# Altium integrated library Processor.IntLib: 68 symbols (part 1 of 4)
Pins are listed as number, name and electrical type; pins without a type are passive.

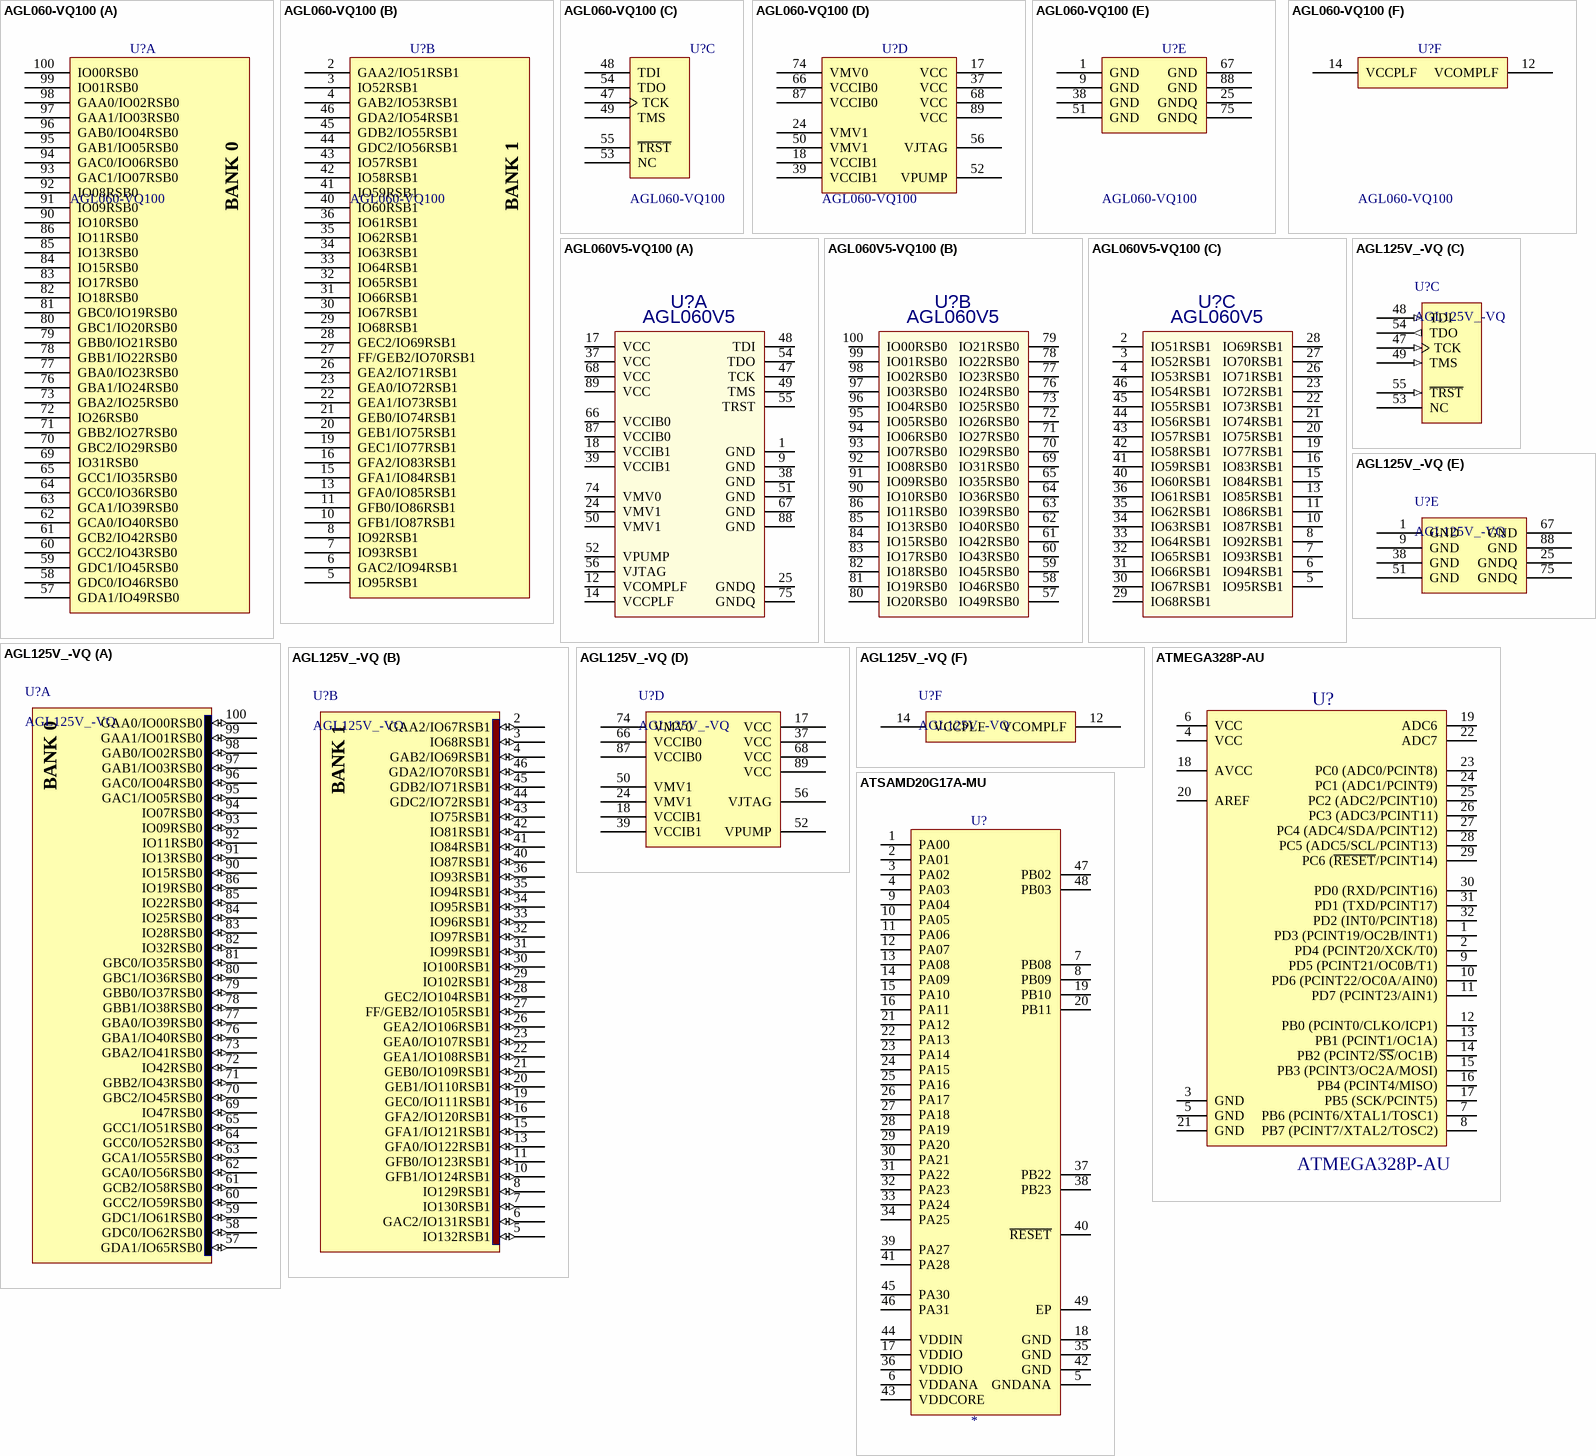
[diagram p0: symbols AGL060-VQ100 to ATSAMD20G17A-MU]

## AGL060-VQ100
designator U?
FPGA - Field Programmable Gate Array IGLOO
footprint VQ100 P0.5 C14x14 H1.2 (Thin QFP, 100-Leads, Body 14x14mm, Pitch 0.5mm, IPC Medium Density)
part A pins: 57 GDA1/IO49RSB0, 58 GDC0/IO46RSB0, 59 GDC1/IO45RSB0, 60 GCC2/IO43RSB0, 61 GCB2/IO42RSB0, 62 GCA0/IO40RSB0, 63 GCA1/IO39RSB0, 64 GCC0/IO36RSB0, 65 GCC1/IO35RSB0, 69 IO31RSB0, 70 GBC2/IO29RSB0, 71 GBB2/IO27RSB0, 72 IO26RSB0, 73 GBA2/IO25RSB0, 76 GBA1/IO24RSB0, 77 GBA0/IO23RSB0, 78 GBB1/IO22RSB0, 79 GBB0/IO21RSB0, 80 GBC1/IO20RSB0, 81 GBC0/IO19RSB0, 82 IO18RSB0, 83 IO17RSB0, 84 IO15RSB0, 85 IO13RSB0, 86 IO11RSB0, 90 IO10RSB0, 91 IO09RSB0, 92 IO08RSB0, 93 GAC1/IO07RSB0, 94 GAC0/IO06RSB0, 95 GAB1/IO05RSB0, 96 GAB0/IO04RSB0, 97 GAA1/IO03RSB0, 98 GAA0/IO02RSB0, 99 IO01RSB0, 100 IO00RSB0
part B pins: 2 GAA2/IO51RSB1, 3 IO52RSB1, 4 GAB2/IO53RSB1, 5 IO95RSB1, 6 GAC2/IO94RSB1, 7 IO93RSB1, 8 IO92RSB1, 10 GFB1/IO87RSB1, 11 GFB0/IO86RSB1, 13 GFA0/IO85RSB1, 15 GFA1/IO84RSB1, 16 GFA2/IO83RSB1, 19 GEC1/IO77RSB1, 20 GEB1/IO75RSB1, 21 GEB0/IO74RSB1, 22 GEA1/IO73RSB1, 23 GEA0/IO72RSB1, 26 GEA2/IO71RSB1, 27 FF/GEB2/IO70RSB1, 28 GEC2/IO69RSB1, 29 IO68RSB1, 30 IO67RSB1, 31 IO66RSB1, 32 IO65RSB1, 33 IO64RSB1, 34 IO63RSB1, 35 IO62RSB1, 36 IO61RSB1, 40 IO60RSB1, 41 IO59RSB1, 42 IO58RSB1, 43 IO57RSB1, 44 GDC2/IO56RSB1, 45 GDB2/IO55RSB1, 46 GDA2/IO54RSB1
part C pins: 47 TCK, 48 TDI, 49 TMS, 53 NC, 54 TDO, 55 ~{TRST}
part D pins: 17 VCC, 18 VCCIB1, 24 VMV1, 37 VCC, 39 VCCIB1, 50 VMV1, 52 VPUMP, 56 VJTAG, 66 VCCIB0, 68 VCC, 74 VMV0, 87 VCCIB0, 89 VCC
part E pins: 1 GND, 9 GND, 25 GNDQ, 38 GND, 51 GND, 67 GND, 75 GNDQ, 88 GND
part F pins: 12 VCOMPLF, 14 VCCPLF
part A text: BANK 0
part B text: BANK 1

## AGL060V5-VQ100
designator U?, comment value AGL060V5  (hidden comment: AGL060V5-VQG100)
IGLOO Low Power Flash FPGAs with Flash Freeze Technology
footprint VQ100 P0.5 C14x14 H1.2 (Thin QFP, 100-Leads, Body 14x14mm, Pitch 0.5mm, IPC Medium Density)
pins on every part: 53 hidden
part A pins: 1 GND, 9 GND, 12 VCOMPLF, 14 VCCPLF, 17 VCC, 18 VCCIB1, 24 VMV1, 25 GNDQ, 37 VCC, 38 GND, 39 VCCIB1, 47 TCK, 48 TDI, 49 TMS, 50 VMV1, 51 GND, 52 VPUMP, 54 TDO, 55 TRST, 56 VJTAG, 66 VCCIB0, 67 GND, 68 VCC, 74 VMV0, 75 GNDQ, 87 VCCIB0, 88 GND, 89 VCC
part B pins: 57 IO49RSB0, 58 IO46RSB0, 59 IO45RSB0, 60 IO43RSB0, 61 IO42RSB0, 62 IO40RSB0, 63 IO39RSB0, 64 IO36RSB0, 65 IO35RSB0, 69 IO31RSB0, 70 IO29RSB0, 71 IO27RSB0, 72 IO26RSB0, 73 IO25RSB0, 76 IO24RSB0, 77 IO23RSB0, 78 IO22RSB0, 79 IO21RSB0, 80 IO20RSB0, 81 IO19RSB0, 82 IO18RSB0, 83 IO17RSB0, 84 IO15RSB0, 85 IO13RSB0, 86 IO11RSB0, 90 IO10RSB0, 91 IO09RSB0, 92 IO08RSB0, 93 IO07RSB0, 94 IO06RSB0, 95 IO05RSB0, 96 IO04RSB0, 97 IO03RSB0, 98 IO02RSB0, 99 IO01RSB0, 100 IO00RSB0
part C pins: 2 IO51RSB1, 3 IO52RSB1, 4 IO53RSB1, 5 IO95RSB1, 6 IO94RSB1, 7 IO93RSB1, 8 IO92RSB1, 10 IO87RSB1, 11 IO86RSB1, 13 IO85RSB1, 15 IO84RSB1, 16 IO83RSB1, 19 IO77RSB1, 20 IO75RSB1, 21 IO74RSB1, 22 IO73RSB1, 23 IO72RSB1, 26 IO71RSB1, 27 IO70RSB1, 28 IO69RSB1, 29 IO68RSB1, 30 IO67RSB1, 31 IO66RSB1, 32 IO65RSB1, 33 IO64RSB1, 34 IO63RSB1, 35 IO62RSB1, 36 IO61RSB1, 40 IO60RSB1, 41 IO59RSB1, 42 IO58RSB1, 43 IO57RSB1, 44 IO56RSB1, 45 IO55RSB1, 46 IO54RSB1

## AGL125V_-VQ
designator U?
IGLOO Low Power Flash FPGAs; Value: AGL125V_-VQ
footprint VQ100 P0.5 C14x14 H1.2 (Thin QFP, 100-Leads, Body 14x14mm, Pitch 0.5mm, IPC Medium Density)
part A pins: 57 GDA1/IO65RSB0 (io), 58 GDC0/IO62RSB0 (io), 59 GDC1/IO61RSB0 (io), 60 GCC2/IO59RSB0 (io), 61 GCB2/IO58RSB0 (io), 62 GCA0/IO56RSB0 (io), 63 GCA1/IO55RSB0 (io), 64 GCC0/IO52RSB0 (io), 65 GCC1/IO51RSB0 (io), 69 IO47RSB0 (io), 70 GBC2/IO45RSB0 (io), 71 GBB2/IO43RSB0 (io), 72 IO42RSB0 (io), 73 GBA2/IO41RSB0 (io), 76 GBA1/IO40RSB0 (io), 77 GBA0/IO39RSB0 (io), 78 GBB1/IO38RSB0 (io), 79 GBB0/IO37RSB0 (io), 80 GBC1/IO36RSB0 (io), 81 GBC0/IO35RSB0 (io), 82 IO32RSB0 (io), 83 IO28RSB0 (io), 84 IO25RSB0 (io), 85 IO22RSB0 (io), 86 IO19RSB0 (io), 90 IO15RSB0 (io), 91 IO13RSB0 (io), 92 IO11RSB0 (io), 93 IO09RSB0 (io), 94 IO07RSB0 (io), 95 GAC1/IO05RSB0 (io), 96 GAC0/IO04RSB0 (io), 97 GAB1/IO03RSB0 (io), 98 GAB0/IO02RSB0 (io), 99 GAA1/IO01RSB0 (io), 100 GAA0/IO00RSB0 (io)
part B pins: 2 GAA2/IO67RSB1 (io), 3 IO68RSB1 (io), 4 GAB2/IO69RSB1 (io), 5 IO132RSB1 (io), 6 GAC2/IO131RSB1 (io), 7 IO130RSB1 (io), 8 IO129RSB1 (io), 10 GFB1/IO124RSB1 (io), 11 GFB0/IO123RSB1 (io), 13 GFA0/IO122RSB1 (io), 15 GFA1/IO121RSB1 (io), 16 GFA2/IO120RSB1 (io), 19 GEC0/IO111RSB1 (io), 20 GEB1/IO110RSB1 (io), 21 GEB0/IO109RSB1 (io), 22 GEA1/IO108RSB1 (io), 23 GEA0/IO107RSB1 (io), 26 GEA2/IO106RSB1 (io), 27 FF/GEB2/IO105RSB1 (io), 28 GEC2/IO104RSB1 (io), 29 IO102RSB1 (io), 30 IO100RSB1 (io), 31 IO99RSB1 (io), 32 IO97RSB1 (io), 33 IO96RSB1 (io), 34 IO95RSB1 (io), 35 IO94RSB1 (io), 36 IO93RSB1 (io), 40 IO87RSB1 (io), 41 IO84RSB1 (io), 42 IO81RSB1 (io), 43 IO75RSB1 (io), 44 GDC2/IO72RSB1 (io), 45 GDB2/IO71RSB1 (io), 46 GDA2/IO70RSB1 (io)
part C pins: 47 TCK (in), 48 TDI (in), 49 TMS (in), 53 NC, 54 TDO (out), 55 ~{TRST} (in)
part D pins: 17 VCC (power), 18 VCCIB1 (power), 24 VMV1 (power), 37 VCC (power), 39 VCCIB1 (power), 50 VMV1 (power), 52 VPUMP (power), 56 VJTAG (power), 66 VCCIB0 (power), 68 VCC (power), 74 VMV0 (power), 87 VCCIB0 (power), 89 VCC (power)
part E pins: 1 GND (power), 9 GND (power), 25 GNDQ (power), 38 GND (power), 51 GND (power), 67 GND (power), 75 GNDQ (power), 88 GND (power)
part F pins: 12 VCOMPLF (power), 14 VCCPLF (power)
part A text: BANK 0
part B text: BANK 1

## ATMEGA328P-AU
designator U?
ATMEL 8-BIT MICROCONTROLLER WITH 32KBYTES  IN-SYSTEM PROGRAMMABLE FLASH; Value: ATMEGA328P-AU
footprint LQFP32 P0.8 C7.0x7.0 H1.6 (TQFP, 32-Leads, Body 7.00x7.00mm, Pitch 0.80mm, IPC Medium Density)
pins: 1 PD3 (PCINT19/OC2B/INT1), 2 PD4 (PCINT20/XCK/T0), 3 GND, 4 VCC, 5 GND, 6 VCC, 7 PB6 (PCINT6/XTAL1/TOSC1), 8 PB7 (PCINT7/XTAL2/TOSC2), 9 PD5 (PCINT21/OC0B/T1), 10 PD6 (PCINT22/OC0A/AIN0), 11 PD7 (PCINT23/AIN1), 12 PB0 (PCINT0/CLKO/ICP1), 13 PB1 (PCINT1/OC1A), 14 PB2 (PCINT2/~{SS}/OC1B), 15 PB3 (PCINT3/OC2A/MOSI), 16 PB4 (PCINT4/MISO), 17 PB5 (SCK/PCINT5), 18 AVCC, 19 ADC6, 20 AREF, 21 GND, 22 ADC7, 23 PC0 (ADC0/PCINT8), 24 PC1 (ADC1/PCINT9), 25 PC2 (ADC2/PCINT10), 26 PC3 (ADC3/PCINT11), 27 PC4 (ADC4/SDA/PCINT12), 28 PC5 (ADC5/SCL/PCINT13), 29 PC6 (~{RESET}/PCINT14), 30 PD0 (RXD/PCINT16), 31 PD1 (TXD/PCINT17), 32 PD2 (INT0/PCINT18)

## ATSAMD20G17A-MU
designator U?
SMART ARM-Based Microcontrollers; Value: *
footprint QFN48 P0.5 T5.5X5.5 C7.0X7.0 H1.0 (QFN, 48-Leads, Body 7x7mm, Pitch 0.5mm, Thermal Pad 5.5x5.5mm, IPC High Density)
pins: 1 PA00 "Parallel I/O Controller I/O Port A", 2 PA01 "Parallel I/O Controller I/O Port A", 3 PA02 "Parallel I/O Controller I/O Port A", 4 PA03 "Parallel I/O Controller I/O Port A", 5 GNDANA, 6 VDDANA, 7 PB08 "Parallel I/O Controller I/O Port B", 8 PB09 "Parallel I/O Controller I/O Port B", 9 PA04 "Parallel I/O Controller I/O Port A", 10 PA05 "Parallel I/O Controller I/O Port A", 11 PA06 "Parallel I/O Controller I/O Port A", 12 PA07 "Parallel I/O Controller I/O Port A", 13 PA08 "Parallel I/O Controller I/O Port A", 14 PA09 "Parallel I/O Controller I/O Port A", 15 PA10 "Parallel I/O Controller I/O Port A", 16 PA11 "Parallel I/O Controller I/O Port A", 17 VDDIO, 18 GND, 19 PB10 "Parallel I/O Controller I/O Port B", 20 PB11 "Parallel I/O Controller I/O Port B", 21 PA12 "Parallel I/O Controller I/O Port A", 22 PA13 "Parallel I/O Controller I/O Port A", 23 PA14 "Parallel I/O Controller I/O Port A", 24 PA15 "Parallel I/O Controller I/O Port A", 25 PA16 "Parallel I/O Controller I/O Port A", 26 PA17 "Parallel I/O Controller I/O Port A", 27 PA18 "Parallel I/O Controller I/O Port A", 28 PA19 "Parallel I/O Controller I/O Port A", 29 PA20 "Parallel I/O Controller I/O Port A", 30 PA21 "Parallel I/O Controller I/O Port A", 31 PA22 "Parallel I/O Controller I/O Port A", 32 PA23 "Parallel I/O Controller I/O Port A", 33 PA24 "Parallel I/O Controller I/O Port A", 34 PA25 "Parallel I/O Controller I/O Port A", 35 GND, 36 VDDIO, 37 PB22 "Parallel I/O Controller I/O Port B", 38 PB23 "Parallel I/O Controller I/O Port B", 39 PA27 "Parallel I/O Controller I/O Port A", 40 ~{RESET} "Reset", 41 PA28 "Parallel I/O Controller I/O Port A", 42 GND, 43 VDDCORE, 44 VDDIN, 45 PA30 "Parallel I/O Controller I/O Port A", 46 PA31 "Parallel I/O Controller I/O Port A", 47 PB02 "Parallel I/O Controller I/O Port B", 48 PB03 "Parallel I/O Controller I/O Port B", 49 EP

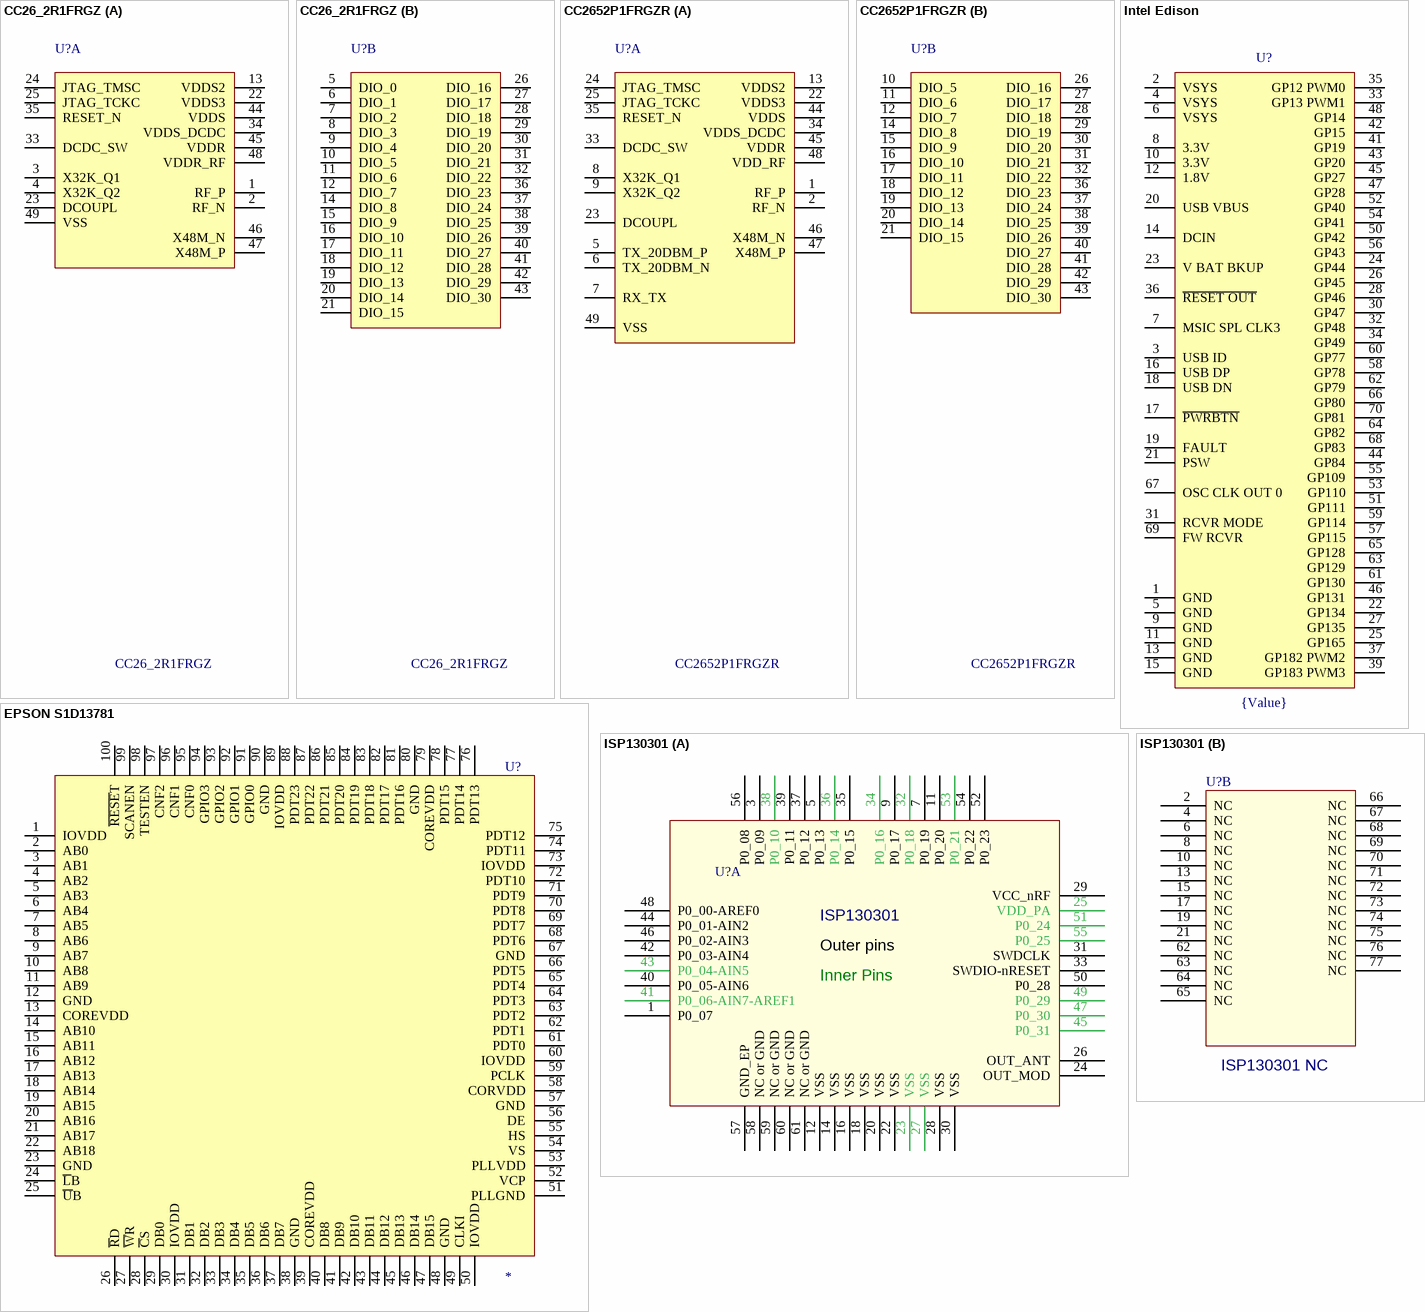
[diagram p1: symbols CC26_2R1FRGZ to ISP130301]

## CC26_2R1FRGZ
designator U?
SimpleLink Multiprotocol 2.4GHz Wireless MCU; Value: CC26_2R1FRGZ
footprint QFN48 P0.5 T5.5X5.5 C7.0X7.0 H1.0 (QFN, 48-Leads, Body 7x7mm, Pitch 0.5mm, Thermal Pad 5.5x5.5mm, IPC High Density)
part A pins: 1 RF_P "Parallel I/O Controller I/O Port A", 2 RF_N "Parallel I/O Controller I/O Port A", 3 X32K_Q1 "Parallel I/O Controller I/O Port A", 4 X32K_Q2 "Parallel I/O Controller I/O Port A", 13 VDDS2 "Parallel I/O Controller I/O Port A", 22 VDDS3 "Parallel I/O Controller I/O Port A", 23 DCOUPL "Parallel I/O Controller I/O Port A", 24 JTAG_TMSC "Parallel I/O Controller I/O Port A", 25 JTAG_TCKC "Parallel I/O Controller I/O Port A", 33 DCDC_SW "Parallel I/O Controller I/O Port A", 34 VDDS_DCDC "Parallel I/O Controller I/O Port A", 35 RESET_N, 44 VDDS, 45 VDDR "Parallel I/O Controller I/O Port A", 46 X48M_N "Parallel I/O Controller I/O Port A", 47 X48M_P "Parallel I/O Controller I/O Port B", 48 VDDR_RF "Parallel I/O Controller I/O Port B", 49 VSS
part B pins: 5 DIO_0, 6 DIO_1, 7 DIO_2 "Parallel I/O Controller I/O Port B", 8 DIO_3 "Parallel I/O Controller I/O Port B", 9 DIO_4 "Parallel I/O Controller I/O Port A", 10 DIO_5 "Parallel I/O Controller I/O Port A", 11 DIO_6 "Parallel I/O Controller I/O Port A", 12 DIO_7 "Parallel I/O Controller I/O Port A", 14 DIO_8 "Parallel I/O Controller I/O Port A", 15 DIO_9 "Parallel I/O Controller I/O Port A", 16 DIO_10 "Parallel I/O Controller I/O Port A", 17 DIO_11, 18 DIO_12, 19 DIO_13 "Parallel I/O Controller I/O Port B", 20 DIO_14 "Parallel I/O Controller I/O Port B", 21 DIO_15 "Parallel I/O Controller I/O Port A", 26 DIO_16 "Parallel I/O Controller I/O Port A", 27 DIO_17 "Parallel I/O Controller I/O Port A", 28 DIO_18 "Parallel I/O Controller I/O Port A", 29 DIO_19 "Parallel I/O Controller I/O Port A", 30 DIO_20 "Parallel I/O Controller I/O Port A", 31 DIO_21 "Parallel I/O Controller I/O Port A", 32 DIO_22 "Parallel I/O Controller I/O Port A", 36 DIO_23, 37 DIO_24 "Parallel I/O Controller I/O Port B", 38 DIO_25 "Parallel I/O Controller I/O Port B", 39 DIO_26 "Parallel I/O Controller I/O Port A", 40 DIO_27 "Reset", 41 DIO_28 "Parallel I/O Controller I/O Port A", 42 DIO_29, 43 DIO_30

## CC2652P1FRGZR
designator U?
SimpleLink Multiprotocol 2.4GHz Wireless MCU; Value: CC2652P1FRGZR
footprint QFN48 P0.5 T5.5X5.5 C7.0X7.0 H1.0 (QFN, 48-Leads, Body 7x7mm, Pitch 0.5mm, Thermal Pad 5.5x5.5mm, IPC High Density)
part A pins: 1 RF_P "Parallel I/O Controller I/O Port A", 2 RF_N "Parallel I/O Controller I/O Port A", 5 TX_20DBM_P, 6 TX_20DBM_N, 7 RX_TX, 8 X32K_Q1, 9 X32K_Q2, 13 VDDS2 "Parallel I/O Controller I/O Port A", 22 VDDS3 "Parallel I/O Controller I/O Port A", 23 DCOUPL "Parallel I/O Controller I/O Port A", 24 JTAG_TMSC "Parallel I/O Controller I/O Port A", 25 JTAG_TCKC "Parallel I/O Controller I/O Port A", 33 DCDC_SW "Parallel I/O Controller I/O Port A", 34 VDDS_DCDC "Parallel I/O Controller I/O Port A", 35 RESET_N, 44 VDDS, 45 VDDR "Parallel I/O Controller I/O Port A", 46 X48M_N "Parallel I/O Controller I/O Port A", 47 X48M_P "Parallel I/O Controller I/O Port B", 48 VDD_RF "Parallel I/O Controller I/O Port B", 49 VSS
part B pins: 10 DIO_5 "Parallel I/O Controller I/O Port A", 11 DIO_6 "Parallel I/O Controller I/O Port A", 12 DIO_7 "Parallel I/O Controller I/O Port A", 14 DIO_8 "Parallel I/O Controller I/O Port A", 15 DIO_9 "Parallel I/O Controller I/O Port A", 16 DIO_10 "Parallel I/O Controller I/O Port A", 17 DIO_11, 18 DIO_12, 19 DIO_13 "Parallel I/O Controller I/O Port B", 20 DIO_14 "Parallel I/O Controller I/O Port B", 21 DIO_15 "Parallel I/O Controller I/O Port A", 26 DIO_16 "Parallel I/O Controller I/O Port A", 27 DIO_17 "Parallel I/O Controller I/O Port A", 28 DIO_18 "Parallel I/O Controller I/O Port A", 29 DIO_19 "Parallel I/O Controller I/O Port A", 30 DIO_20 "Parallel I/O Controller I/O Port A", 31 DIO_21 "Parallel I/O Controller I/O Port A", 32 DIO_22 "Parallel I/O Controller I/O Port A", 36 DIO_23, 37 DIO_24 "Parallel I/O Controller I/O Port B", 38 DIO_25 "Parallel I/O Controller I/O Port B", 39 DIO_26 "Parallel I/O Controller I/O Port A", 40 DIO_27 "Reset", 41 DIO_28 "Parallel I/O Controller I/O Port A", 42 DIO_29, 43 DIO_30

## EPSON S1D13781
designator U?
LCD Controller; Value: *
footprint LQFP100 P0.5 C14.0X14.0 H1.6 (Thin QFP, 100-Leads, Body 14x14mm, Pitch 0.5mm, IPC Medium Density)
pins: 1 IOVDD, 2 AB0, 3 AB1, 4 AB2, 5 AB3, 6 AB4, 7 AB5, 8 AB6, 9 AB7, 10 AB8, 11 AB9, 12 GND, 13 COREVDD, 14 AB10, 15 AB11, 16 AB12, 17 AB13, 18 AB14, 19 AB15, 20 AB16, 21 AB17, 22 AB18, 23 GND, 24 ~{L}B, 25 ~{U}B, 26 ~{R}D, 27 ~{W}R, 28 ~{C}S, 29 DB0, 30 IOVDD, 31 DB1, 32 DB2, 33 DB3, 34 DB4, 35 DB5, 36 DB6, 37 DB7, 38 GND, 39 COREVDD, 40 DB8, 41 DB9, 42 DB10, 43 DB11, 44 DB12, 45 DB13, 46 DB14, 47 DB15, 48 GND, 49 CLKI, 50 IOVDD, 51 PLLGND, 52 VCP, 53 PLLVDD, 54 VS, 55 HS, 56 DE, 57 GND, 58 CORVDD, 59 PCLK, 60 IOVDD, 61 PDT0, 62 PDT1, 63 PDT2, 64 PDT3, 65 PDT4, 66 PDT5, 67 GND, 68 PDT6, 69 PDT7, 70 PDT8, 71 PDT9, 72 PDT10, 73 IOVDD, 74 PDT11, 75 PDT12, 76 PDT13, 77 PDT14, 78 PDT15, 79 COREVDD, 80 GND, 81 PDT16, 82 PDT17, 83 PDT18, 84 PDT19, 85 PDT20, 86 PDT21, 87 PDT22, 88 PDT23, 89 IOVDD, 90 GND, 91 GPIO0, 92 GPIO1, 93 GPIO2, 94 GPIO3, 95 CNF0, 96 CNF1, 97 CNF2, 98 TESTEN, 99 SCANEN, 100 ~{RESE}T

## Intel Edison
designator U?  value {Value}  (hidden comment: Intel Edison)
footprint Intel Edison
pins: 1 GND, 2 VSYS, 3 USB ID, 4 VSYS, 5 GND, 6 VSYS, 7 MSIC SPL CLK3, 8 3.3V, 9 GND, 10 3.3V, 11 GND, 12 1.8V, 13 GND, 14 DCIN, 15 GND, 16 USB DP, 17 ~{PWRBTN}, 18 USB DN, 19 FAULT, 20 USB VBUS, 21 PSW, 22 GP134, 23 V BAT BKUP, 24 GP44, 25 GP165, 26 GP45, 27 GP135, 28 GP46, 30 GP47, 31 RCVR MODE, 32 GP48, 33 GP13 PWM1, 34 GP49, 35 GP12 PWM0, 36 ~{RESET OUT}, 37 GP182 PWM2, 39 GP183 PWM3, 41 GP19, 42 GP15, 43 GP20, 44 GP84, 45 GP27, 46 GP131, 47 GP28, 48 GP14, 50 GP42, 51 GP111, 52 GP40, 53 GP110, 54 GP41, 55 GP109, 56 GP43, 57 GP115, 58 GP78, 59 GP114, 60 GP77, 61 GP130, 62 GP79, 63 GP129, 64 GP82, 65 GP128, 66 GP80, 67 OSC CLK OUT 0, 68 GP83, 69 FW RCVR, 70 GP81

## ISP130301
designator U?  (value not drawn)
ISP Smart Bluetooth Module; Value: ISP130301
footprint ISP130301 (Insight SiP BLE module outer pins only)
part A pins: 1 P0_07, 3 P0_09, 5 P0_13, 7 P0_19, 9 P0_17, 11 P0_20, 12 VSS, 14 VSS, 16 VSS, 18 VSS, 20 VSS, 22 VSS, 23 VSS, 24 OUT_MOD, 25 VDD_PA, 26 OUT_ANT, 27 VSS, 28 VSS, 29 VCC_nRF, 30 VSS, 31 SWDCLK, 32 P0_18, 33 SWDIO-nRESET, 34 P0_16, 35 P0_15, 36 P0_14, 37 P0_12, 38 P0_10, 39 P0_11, 40 P0_05-AIN6, 41 P0_06-AIN7-AREF1, 42 P0_03-AIN4, 43 P0_04-AIN5, 44 P0_01-AIN2, 45 P0_31, 46 P0_02-AIN3, 47 P0_30, 48 P0_00-AREF0, 49 P0_29, 50 P0_28, 51 P0_24, 52 P0_23, 53 P0_21, 54 P0_22, 55 P0_25, 56 P0_08, 57 GND_EP, 58 NC or GND, 59 NC or GND, 60 NC or GND, 61 NC or GND
part B pins: 2 NC, 4 NC, 6 NC, 8 NC, 10 NC, 13 NC, 15 NC, 17 NC, 19 NC, 21 NC, 62 NC, 63 NC, 64 NC, 65 NC, 66 NC, 67 NC, 68 NC, 69 NC, 70 NC, 71 NC, 72 NC, 73 NC, 74 NC, 75 NC, 76 NC, 77 NC
part A text: Outer pins; Inner Pins
part B text: ISP130301 NC

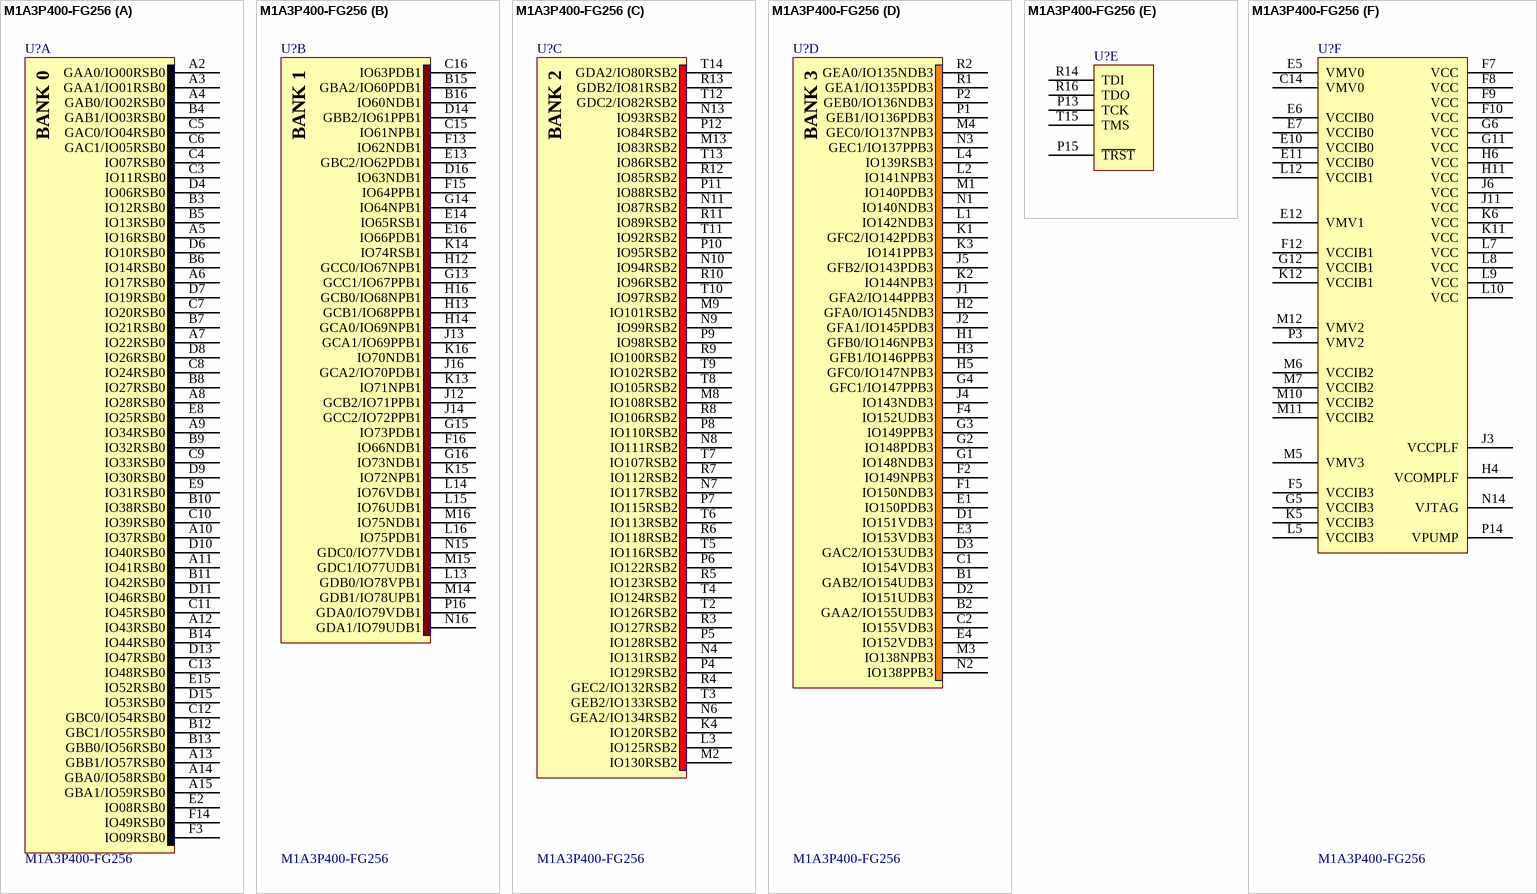
[diagram p2: symbol M1A3P400-FG256]

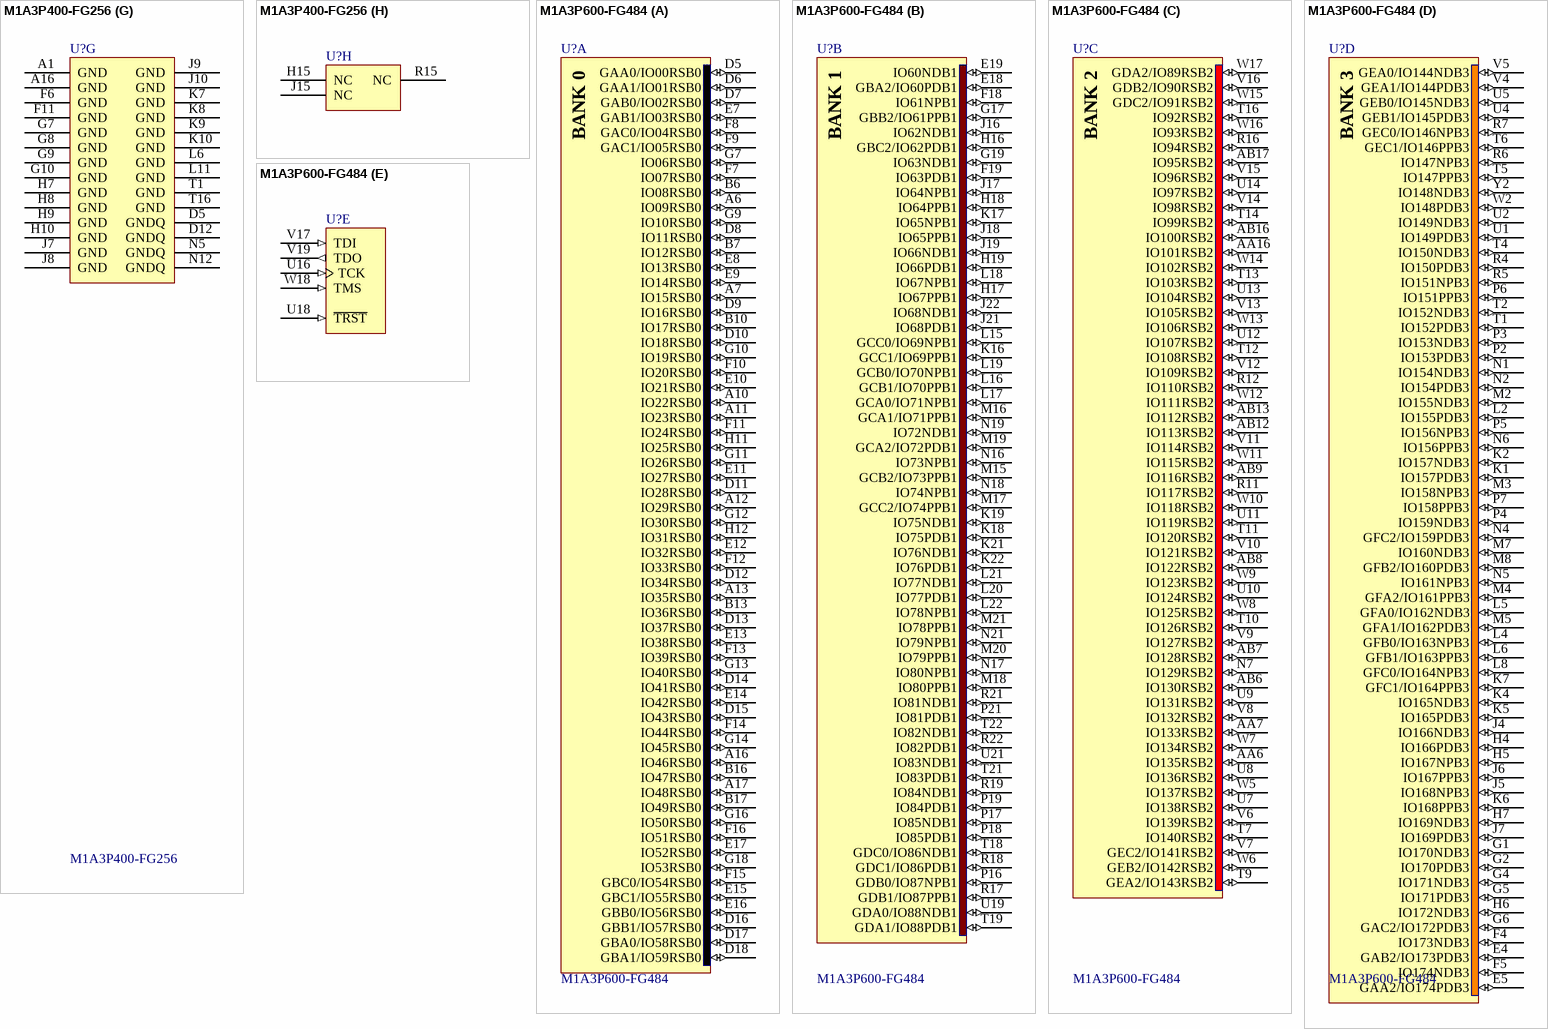
[diagram p3: symbols M1A3P400-FG256 to M1A3P600-FG484]

## M1A3P400-FG256
designator U?
ProASIC3 Flash with Optional Soft ARM Support
footprint BGA256 P1.0 C17.0X17.0 H1.55 (BGA, 256-Balls, Body 17x17mm, Pitch 1mm)
part A pins: A2 GAA0/IO00RSB0, A3 GAA1/IO01RSB0, A4 GAB0/IO02RSB0, A5 IO16RSB0, A6 IO17RSB0, A7 IO22RSB0, A8 IO28RSB0, A9 IO34RSB0, A10 IO37RSB0, A11 IO41RSB0, A12 IO43RSB0, A13 GBB1/IO57RSB0, A14 GBA0/IO58RSB0, A15 GBA1/IO59RSB0, B3 IO12RSB0, B4 GAB1/IO03RSB0, B5 IO13RSB0, B6 IO14RSB0, B7 IO21RSB0, B8 IO27RSB0, B9 IO32RSB0, B10 IO38RSB0, B11 IO42RSB0, B12 GBC1/IO55RSB0, B13 GBB0/IO56RSB0, B14 IO44RSB0, C3 IO11RSB0, C4 IO07RSB0, C5 GAC0/IO04RSB0, C6 GAC1/IO05RSB0, C7 IO20RSB0, C8 IO24RSB0, C9 IO33RSB0, C10 IO39RSB0, C11 IO45RSB0, C12 GBC0/IO54RSB0, C13 IO48RSB0, D4 IO06RSB0, D6 IO10RSB0, D7 IO19RSB0, D8 IO26RSB0, D9 IO30RSB0, D10 IO40RSB0, D11 IO46RSB0, D13 IO47RSB0, D15 IO53RSB0, E2 IO08RSB0, E8 IO25RSB0, E9 IO31RSB0, E15 IO52RSB0, F3 IO09RSB0, F14 IO49RSB0
part B pins: B15 GBA2/IO60PDB1, B16 IO60NDB1, C15 IO61NPB1, C16 IO63PDB1, D14 GBB2/IO61PPB1, D16 IO63NDB1, E13 GBC2/IO62PDB1, E14 IO65RSB1, E16 IO66PDB1, F13 IO62NDB1, F15 IO64PPB1, F16 IO66NDB1, G13 GCC1/IO67PPB1, G14 IO64NPB1, G15 IO73PDB1, G16 IO73NDB1, H12 GCC0/IO67NPB1, H13 GCB1/IO68PPB1, H14 GCA0/IO69NPB1, H16 GCB0/IO68NPB1, J12 GCB2/IO71PPB1, J13 GCA1/IO69PPB1, J14 GCC2/IO72PPB1, J16 GCA2/IO70PDB1, K13 IO71NPB1, K14 IO74RSB1, K15 IO72NPB1, K16 IO70NDB1, L13 GDB0/IO78VPB1, L14 IO76VDB1, L15 IO76UDB1, L16 IO75PDB1, M14 GDB1/IO78UPB1, M15 GDC1/IO77UDB1, M16 IO75NDB1, N15 GDC0/IO77VDB1, N16 GDA1/IO79UDB1, P16 GDA0/IO79VDB1
part C pins: K4 IO120RSB2, L3 IO125RSB2, M2 IO130RSB2, M8 IO108RSB2, M9 IO101RSB2, M13 IO83RSB2, N4 IO131RSB2, N6 GEA2/IO134RSB2, N7 IO117RSB2, N8 IO111RSB2, N9 IO99RSB2, N10 IO94RSB2, N11 IO87RSB2, N13 IO93RSB2, P4 IO129RSB2, P5 IO128RSB2, P6 IO122RSB2, P7 IO115RSB2, P8 IO110RSB2, P9 IO98RSB2, P10 IO95RSB2, P11 IO88RSB2, P12 IO84RSB2, R3 IO127RSB2, R4 GEC2/IO132RSB2, R5 IO123RSB2, R6 IO118RSB2, R7 IO112RSB2, R8 IO106RSB2, R9 IO100RSB2, R10 IO96RSB2, R11 IO89RSB2, R12 IO85RSB2, R13 GDB2/IO81RSB2, T2 IO126RSB2, T3 GEB2/IO133RSB2, T4 IO124RSB2, T5 IO116RSB2, T6 IO113RSB2, T7 IO107RSB2, T8 IO105RSB2, T9 IO102RSB2, T10 IO97RSB2, T11 IO92RSB2, T12 GDC2/IO82RSB2, T13 IO86RSB2, T14 GDA2/IO80RSB2
part D pins: B1 GAB2/IO154UDB3, B2 GAA2/IO155UDB3, C1 IO154VDB3, C2 IO155VDB3, D1 IO151VDB3, D2 IO151UDB3, D3 GAC2/IO153UDB3, E1 IO150PDB3, E3 IO153VDB3, E4 IO152VDB3, F1 IO150NDB3, F2 IO149NPB3, F4 IO152UDB3, G1 IO148NDB3, G2 IO148PDB3, G3 IO149PPB3, G4 GFC1/IO147PPB3, H1 GFB0/IO146NPB3, H2 GFA0/IO145NDB3, H3 GFB1/IO146PPB3, H5 GFC0/IO147NPB3, J1 GFA2/IO144PPB3, J2 GFA1/IO145PDB3, J4 IO143NDB3, J5 GFB2/IO143PDB3, K1 GFC2/IO142PDB3, K2 IO144NPB3, K3 IO141PPB3, L1 IO142NDB3, L2 IO141NPB3, L4 IO139RSB3, M1 IO140PDB3, M3 IO138NPB3, M4 GEC0/IO137NPB3, N1 IO140NDB3, N2 IO138PPB3, N3 GEC1/IO137PPB3, P1 GEB1/IO136PDB3, P2 GEB0/IO136NDB3, R1 GEA1/IO135PDB3, R2 GEA0/IO135NDB3
part E pins: P13 TCK, P15 ~{TRST}, R14 TDI, R16 TDO, T15 TMS
part F pins: C14 VMV0, E5 VMV0, E6 VCCIB0, E7 VCCIB0, E10 VCCIB0, E11 VCCIB0, E12 VMV1, F5 VCCIB3, F7 VCC, F8 VCC, F9 VCC, F10 VCC, F12 VCCIB1, G5 VCCIB3, G6 VCC, G11 VCC, G12 VCCIB1, H4 VCOMPLF, H6 VCC, H11 VCC, J3 VCCPLF, J6 VCC, J11 VCC, K5 VCCIB3, K6 VCC, K11 VCC, K12 VCCIB1, L5 VCCIB3, L7 VCC, L8 VCC, L9 VCC, L10 VCC, L12 VCCIB1, M5 VMV3, M6 VCCIB2, M7 VCCIB2, M10 VCCIB2, M11 VCCIB2, M12 VMV2, N14 VJTAG, P3 VMV2, P14 VPUMP
part G pins: A1 GND, A16 GND, D5 GNDQ, D12 GNDQ, F6 GND, F11 GND, G7 GND, G8 GND, G9 GND, G10 GND, H7 GND, H8 GND, H9 GND, H10 GND, J7 GND, J8 GND, J9 GND, J10 GND, K7 GND, K8 GND, K9 GND, K10 GND, L6 GND, L11 GND, N5 GNDQ, N12 GNDQ, T1 GND, T16 GND
part H pins: H15 NC, J15 NC, R15 NC
part A text: BANK 0
part B text: BANK 1
part C text: BANK 2
part D text: BANK 3

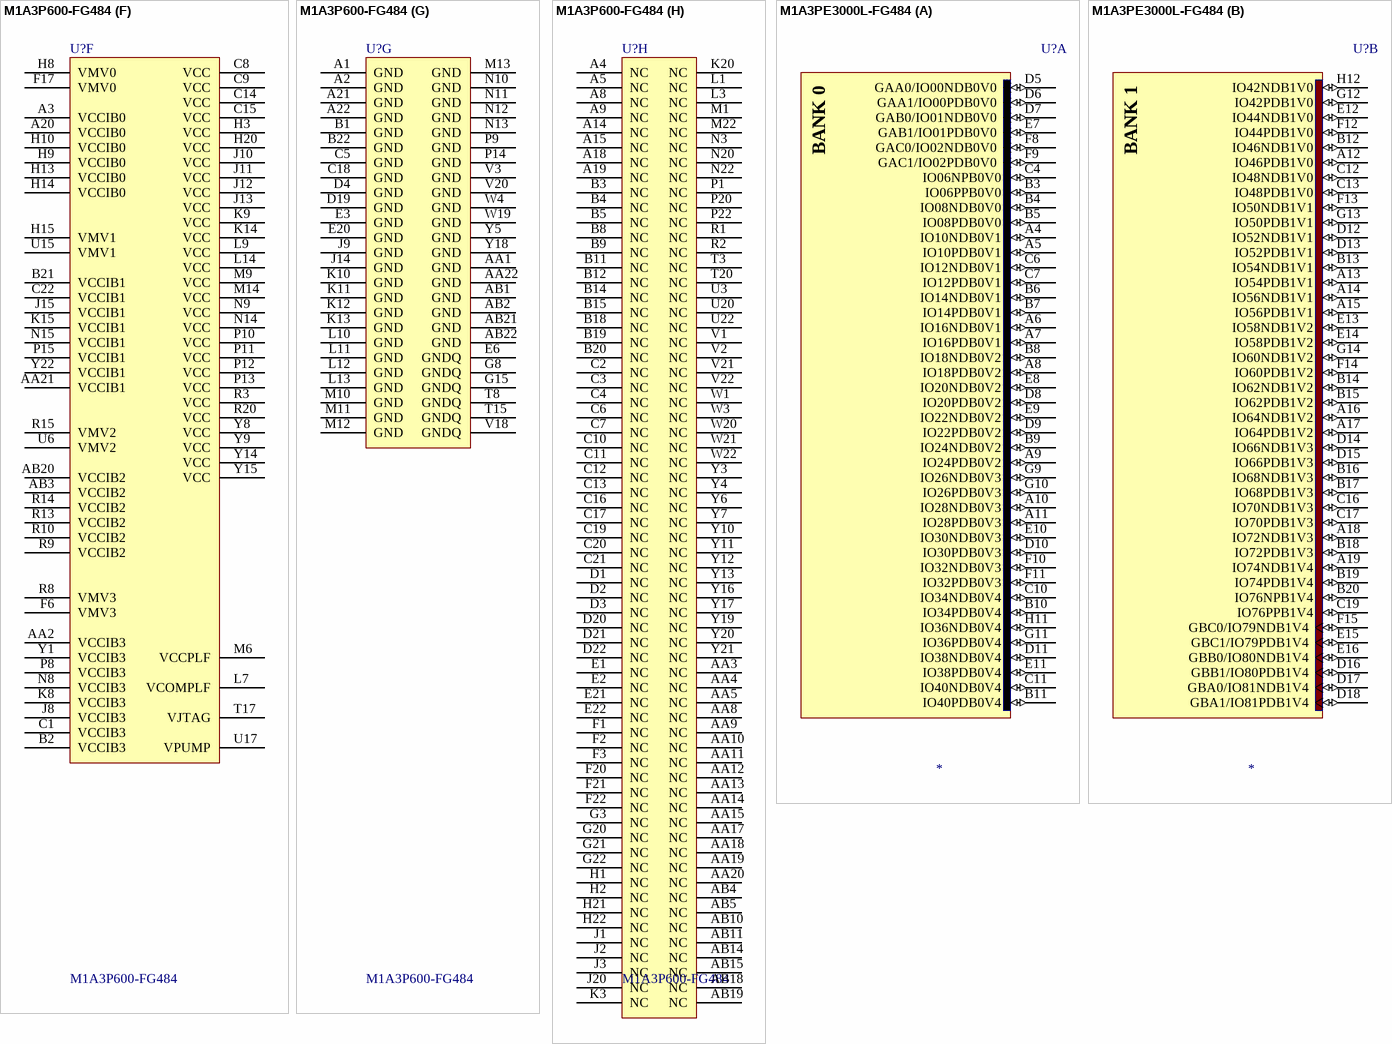
[diagram p4: symbols M1A3P600-FG484 to M1A3PE3000L-FG484]

## M1A3P600-FG484
designator U?
ProASIC3 Flash Family FPGAswith Optional Soft ARM Support
footprint BGA484 P1.0 C23X23 H2.2 (BGA, 484-Balls, Body 23x23mm, Pitch 1mm, Microsemi)
part A pins: A6 IO09RSB0 (io), A7 IO15RSB0 (io), A10 IO22RSB0 (io), A11 IO23RSB0 (io), A12 IO29RSB0 (io), A13 IO35RSB0 (io), A16 IO46RSB0 (io), A17 IO48RSB0 (io), B6 IO08RSB0 (io), B7 IO12RSB0 (io), B10 IO17RSB0 (io), B13 IO36RSB0 (io), B16 IO47RSB0 (io), B17 IO49RSB0 (io), D5 GAA0/IO00RSB0 (io), D6 GAA1/IO01RSB0 (io), D7 GAB0/IO02RSB0 (io), D8 IO11RSB0 (io), D9 IO16RSB0 (io), D10 IO18RSB0 (io), D11 IO28RSB0 (io), D12 IO34RSB0 (io), D13 IO37RSB0 (io), D14 IO41RSB0 (io), D15 IO43RSB0 (io), D16 GBB1/IO57RSB0 (io), D17 GBA0/IO58RSB0 (io), D18 GBA1/IO59RSB0 (io), E7 GAB1/IO03RSB0 (io), E8 IO13RSB0 (io), E9 IO14RSB0 (io), E10 IO21RSB0 (io), E11 IO27RSB0 (io), E12 IO32RSB0 (io), E13 IO38RSB0 (io), E14 IO42RSB0 (io), E15 GBC1/IO55RSB0 (io), E16 GBB0/IO56RSB0 (io), E17 IO52RSB0 (io), F7 IO07RSB0 (io), F8 GAC0/IO04RSB0 (io), F9 GAC1/IO05RSB0 (io), F10 IO20RSB0 (io), F11 IO24RSB0 (io), F12 IO33RSB0 (io), F13 IO39RSB0 (io), F14 IO44RSB0 (io), F15 GBC0/IO54RSB0 (io), F16 IO51RSB0 (io), G7 IO06RSB0 (io), G9 IO10RSB0 (io), G10 IO19RSB0 (io), G11 IO26RSB0 (io), G12 IO30RSB0 (io), G13 IO40RSB0 (io), G14 IO45RSB0 (io), G16 IO50RSB0 (io), G18 IO53RSB0 (io), H11 IO25RSB0 (io), H12 IO31RSB0 (io)
part B pins: E18 GBA2/IO60PDB1 (io), E19 IO60NDB1 (io), F18 IO61NPB1 (io), F19 IO63PDB1 (io), G17 GBB2/IO61PPB1 (io), G19 IO63NDB1 (io), H16 GBC2/IO62PDB1 (io), H17 IO67PPB1 (io), H18 IO64PPB1 (io), H19 IO66PDB1 (io), J16 IO62NDB1 (io), J17 IO64NPB1 (io), J18 IO65PPB1 (io), J19 IO66NDB1 (io), J21 IO68PDB1 (io), J22 IO68NDB1 (io), K16 GCC1/IO69PPB1 (io), K17 IO65NPB1 (io), K18 IO75PDB1 (io), K19 IO75NDB1 (io), K21 IO76NDB1 (io), K22 IO76PDB1 (io), L15 GCC0/IO69NPB1 (io), L16 GCB1/IO70PPB1 (io), L17 GCA0/IO71NPB1 (io), L18 IO67NPB1 (io), L19 GCB0/IO70NPB1 (io), L20 IO77PDB1 (io), L21 IO77NDB1 (io), L22 IO78NPB1 (io), M15 GCB2/IO73PPB1 (io), M16 GCA1/IO71PPB1 (io), M17 GCC2/IO74PPB1 (io), M18 IO80PPB1 (io), M19 GCA2/IO72PDB1 (io), M20 IO79PPB1 (io), M21 IO78PPB1 (io), N16 IO73NPB1 (io), N17 IO80NPB1 (io), N18 IO74NPB1 (io), N19 IO72NDB1 (io), N21 IO79NPB1 (io), P16 GDB0/IO87NPB1 (io), P17 IO85NDB1 (io), P18 IO85PDB1 (io), P19 IO84PDB1 (io), P21 IO81PDB1 (io), R17 GDB1/IO87PPB1 (io), R18 GDC1/IO86PDB1 (io), R19 IO84NDB1 (io), R21 IO81NDB1 (io), R22 IO82PDB1 (io), T18 GDC0/IO86NDB1 (io), T19 GDA1/IO88PDB1 (io), T21 IO83PDB1 (io), T22 IO82NDB1 (io), U19 GDA0/IO88NDB1 (io), U21 IO83NDB1 (io)
part C pins: AA6 IO135RSB2 (io), AA7 IO133RSB2 (io), AA16 IO101RSB2 (io), AB6 IO130RSB2 (io), AB7 IO128RSB2 (io), AB8 IO122RSB2 (io), AB9 IO116RSB2 (io), AB12 IO113RSB2 (io), AB13 IO112RSB2 (io), AB16 IO100RSB2 (io), AB17 IO95RSB2 (io), N7 IO129RSB2 (io), R11 IO117RSB2 (io), R12 IO110RSB2 (io), R16 IO94RSB2 (io), T7 IO140RSB2 (io), T9 GEA2/IO143RSB2 (io), T10 IO126RSB2 (io), T11 IO120RSB2 (io), T12 IO108RSB2 (io), T13 IO103RSB2 (io), T14 IO99RSB2 (io), T16 IO92RSB2 (io), U7 IO138RSB2 (io), U8 IO136RSB2 (io), U9 IO131RSB2 (io), U10 IO124RSB2 (io), U11 IO119RSB2 (io), U12 IO107RSB2 (io), U13 IO104RSB2 (io), U14 IO97RSB2 (io), V6 IO139RSB2 (io), V7 GEC2/IO141RSB2 (io), V8 IO132RSB2 (io), V9 IO127RSB2 (io), V10 IO121RSB2 (io), V11 IO114RSB2 (io), V12 IO109RSB2 (io), V13 IO105RSB2 (io), V14 IO98RSB2 (io), V15 IO96RSB2 (io), V16 GDB2/IO90RSB2 (io), W5 IO137RSB2 (io), W6 GEB2/IO142RSB2 (io), W7 IO134RSB2 (io), W8 IO125RSB2 (io), W9 IO123RSB2 (io), W10 IO118RSB2 (io), W11 IO115RSB2 (io), W12 IO111RSB2 (io), W13 IO106RSB2 (io), W14 IO102RSB2 (io), W15 GDC2/IO91RSB2 (io), W16 IO93RSB2 (io), W17 GDA2/IO89RSB2 (io)
part D pins: E4 GAB2/IO173PDB3 (io), E5 GAA2/IO174PDB3 (io), F4 IO173NDB3 (io), F5 IO174NDB3 (io), G1 IO170NDB3 (io), G2 IO170PDB3 (io), G4 IO171NDB3 (io), G5 IO171PDB3 (io), G6 GAC2/IO172PDB3 (io), H4 IO166PDB3 (io), H5 IO167NPB3 (io), H6 IO172NDB3 (io), H7 IO169NDB3 (io), J4 IO166NDB3 (io), J5 IO168NPB3 (io), J6 IO167PPB3 (io), J7 IO169PDB3 (io), K1 IO157PDB3 (io), K2 IO157NDB3 (io), K4 IO165NDB3 (io), K5 IO165PDB3 (io), K6 IO168PPB3 (io), K7 GFC1/IO164PPB3 (io), L2 IO155PDB3 (io), L4 GFB0/IO163NPB3 (io), L5 GFA0/IO162NDB3 (io), L6 GFB1/IO163PPB3 (io), L8 GFC0/IO164NPB3 (io), M2 IO155NDB3 (io), M3 IO158NPB3 (io), M4 GFA2/IO161PPB3 (io), M5 GFA1/IO162PDB3 (io), M7 IO160NDB3 (io), M8 GFB2/IO160PDB3 (io), N1 IO154NDB3 (io), N2 IO154PDB3 (io), N4 GFC2/IO159PDB3 (io), N5 IO161NPB3 (io), N6 IO156PPB3 (io), P2 IO153PDB3 (io), P3 IO153NDB3 (io), P4 IO159NDB3 (io), P5 IO156NPB3 (io), P6 IO151PPB3 (io), P7 IO158PPB3 (io), R4 IO150PDB3 (io), R5 IO151NPB3 (io), R6 IO147NPB3 (io), R7 GEC0/IO146NPB3 (io), T1 IO152PDB3 (io), T2 IO152NDB3 (io), T4 IO150NDB3 (io), T5 IO147PPB3 (io), T6 GEC1/IO146PPB3 (io), U1 IO149PDB3 (io), U2 IO149NDB3 (io), U4 GEB1/IO145PDB3 (io), U5 GEB0/IO145NDB3 (io), V4 GEA1/IO144PDB3 (io), V5 GEA0/IO144NDB3 (io), W2 IO148PDB3 (io), Y2 IO148NDB3 (io)
part E pins: U16 TCK (in), U18 ~{TRST} (in), V17 TDI (in), V19 TDO (out), W18 TMS (in)
part F pins: A3 VCCIB0 (power), A20 VCCIB0 (power), AA2 VCCIB3 (power), AA21 VCCIB1 (power), AB3 VCCIB2 (power), AB20 VCCIB2 (power), B2 VCCIB3 (power), B21 VCCIB1 (power), C1 VCCIB3 (power), C8 VCC (power), C9 VCC (power), C14 VCC (power), C15 VCC (power), C22 VCCIB1 (power), F6 VMV3 (power), F17 VMV0 (power), H3 VCC (power), H8 VMV0 (power), H9 VCCIB0 (power), H10 VCCIB0 (power), H13 VCCIB0 (power), H14 VCCIB0 (power), H15 VMV1 (power), H20 VCC (power), J8 VCCIB3 (power), J10 VCC (power), J11 VCC (power), J12 VCC (power), J13 VCC (power), J15 VCCIB1 (power), K8 VCCIB3 (power), K9 VCC (power), K14 VCC (power), K15 VCCIB1 (power), L7 VCOMPLF (power), L9 VCC (power), L14 VCC (power), M6 VCCPLF (power), M9 VCC (power), M14 VCC (power), N8 VCCIB3 (power), N9 VCC (power), N14 VCC (power), N15 VCCIB1 (power), P8 VCCIB3 (power), P10 VCC (power), P11 VCC (power), P12 VCC (power), P13 VCC (power), P15 VCCIB1 (power), R3 VCC (power), R8 VMV3 (power), R9 VCCIB2 (power), R10 VCCIB2 (power), R13 VCCIB2 (power), R14 VCCIB2 (power), R15 VMV2 (power), R20 VCC (power), T17 VJTAG (power), U6 VMV2 (power), U15 VMV1 (power), U17 VPUMP (power), Y1 VCCIB3 (power), Y8 VCC (power), Y9 VCC (power), Y14 VCC (power), Y15 VCC (power), Y22 VCCIB1 (power)
part G pins: A1 GND (power), A2 GND (power), A21 GND (power), A22 GND (power), AA1 GND (power), AA22 GND (power), AB1 GND (power), AB2 GND (power), AB21 GND (power), AB22 GND (power), B1 GND (power), B22 GND (power), C5 GND (power), C18 GND (power), D4 GND (power), D19 GND (power), E3 GND (power), E6 GNDQ (power), E20 GND (power), G8 GNDQ (power), G15 GNDQ (power), J9 GND (power), J14 GND (power), K10 GND (power), K11 GND (power), K12 GND (power), K13 GND (power), L10 GND (power), L11 GND (power), L12 GND (power), L13 GND (power), M10 GND (power), M11 GND (power), M12 GND (power), M13 GND (power), N10 GND (power), N11 GND (power), N12 GND (power), N13 GND (power), P9 GND (power), P14 GND (power), T8 GNDQ (power), T15 GNDQ (power), V3 GND (power), V18 GNDQ (power), V20 GND (power), W4 GND (power), W19 GND (power), Y5 GND (power), Y18 GND (power)
part H pins: A4 NC, A5 NC, A8 NC, A9 NC, A14 NC, A15 NC, A18 NC, A19 NC, AA3 NC, AA4 NC, AA5 NC, AA8 NC, AA9 NC, AA10 NC, AA11 NC, AA12 NC, AA13 NC, AA14 NC, AA15 NC, AA17 NC, AA18 NC, AA19 NC, AA20 NC, AB4 NC, AB5 NC, AB10 NC, AB11 NC, AB14 NC, AB15 NC, AB18 NC, AB19 NC, B3 NC, B4 NC, B5 NC, B8 NC, B9 NC, B11 NC, B12 NC, B14 NC, B15 NC, B18 NC, B19 NC, B20 NC, C2 NC, C3 NC, C4 NC, C6 NC, C7 NC, C10 NC, C11 NC, C12 NC, C13 NC, C16 NC, C17 NC, C19 NC, C20 NC, C21 NC, D1 NC, D2 NC, D3 NC, D20 NC, D21 NC, D22 NC, E1 NC, E2 NC, E21 NC, E22 NC, F1 NC, F2 NC, F3 NC, F20 NC, F21 NC, F22 NC, G3 NC, G20 NC, G21 NC, G22 NC, H1 NC, H2 NC, H21 NC, H22 NC, J1 NC, J2 NC, J3 NC, J20 NC, K3 NC, K20 NC, L1 NC, L3 NC, M1 NC, M22 NC, N3 NC, N20 NC, N22 NC, P1 NC, P20 NC, P22 NC, R1 NC, R2 NC, T3 NC, T20 NC, U3 NC, U20 NC, U22 NC, V1 NC, V2 NC, V21 NC, V22 NC, W1 NC, W3 NC, W20 NC, W21 NC, W22 NC, Y3 NC, Y4 NC, Y6 NC, Y7 NC, Y10 NC, Y11 NC, Y12 NC, Y13 NC, Y16 NC, Y17 NC, Y19 NC, Y20 NC, Y21 NC
part A text: BANK 0
part B text: BANK 1
part C text: BANK 2
part D text: BANK 3

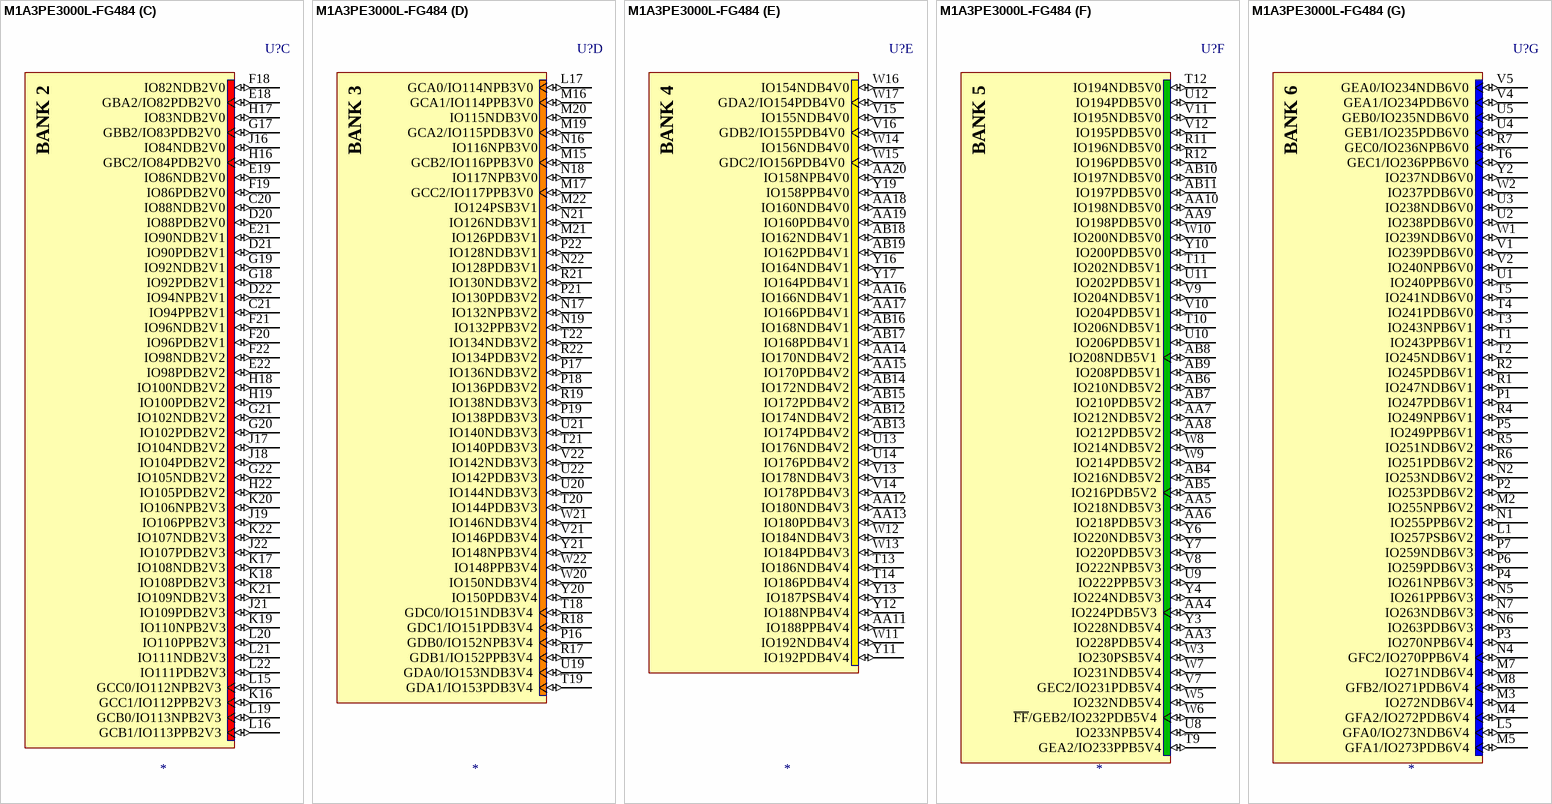
[diagram p5: symbol M1A3PE3000L-FG484]

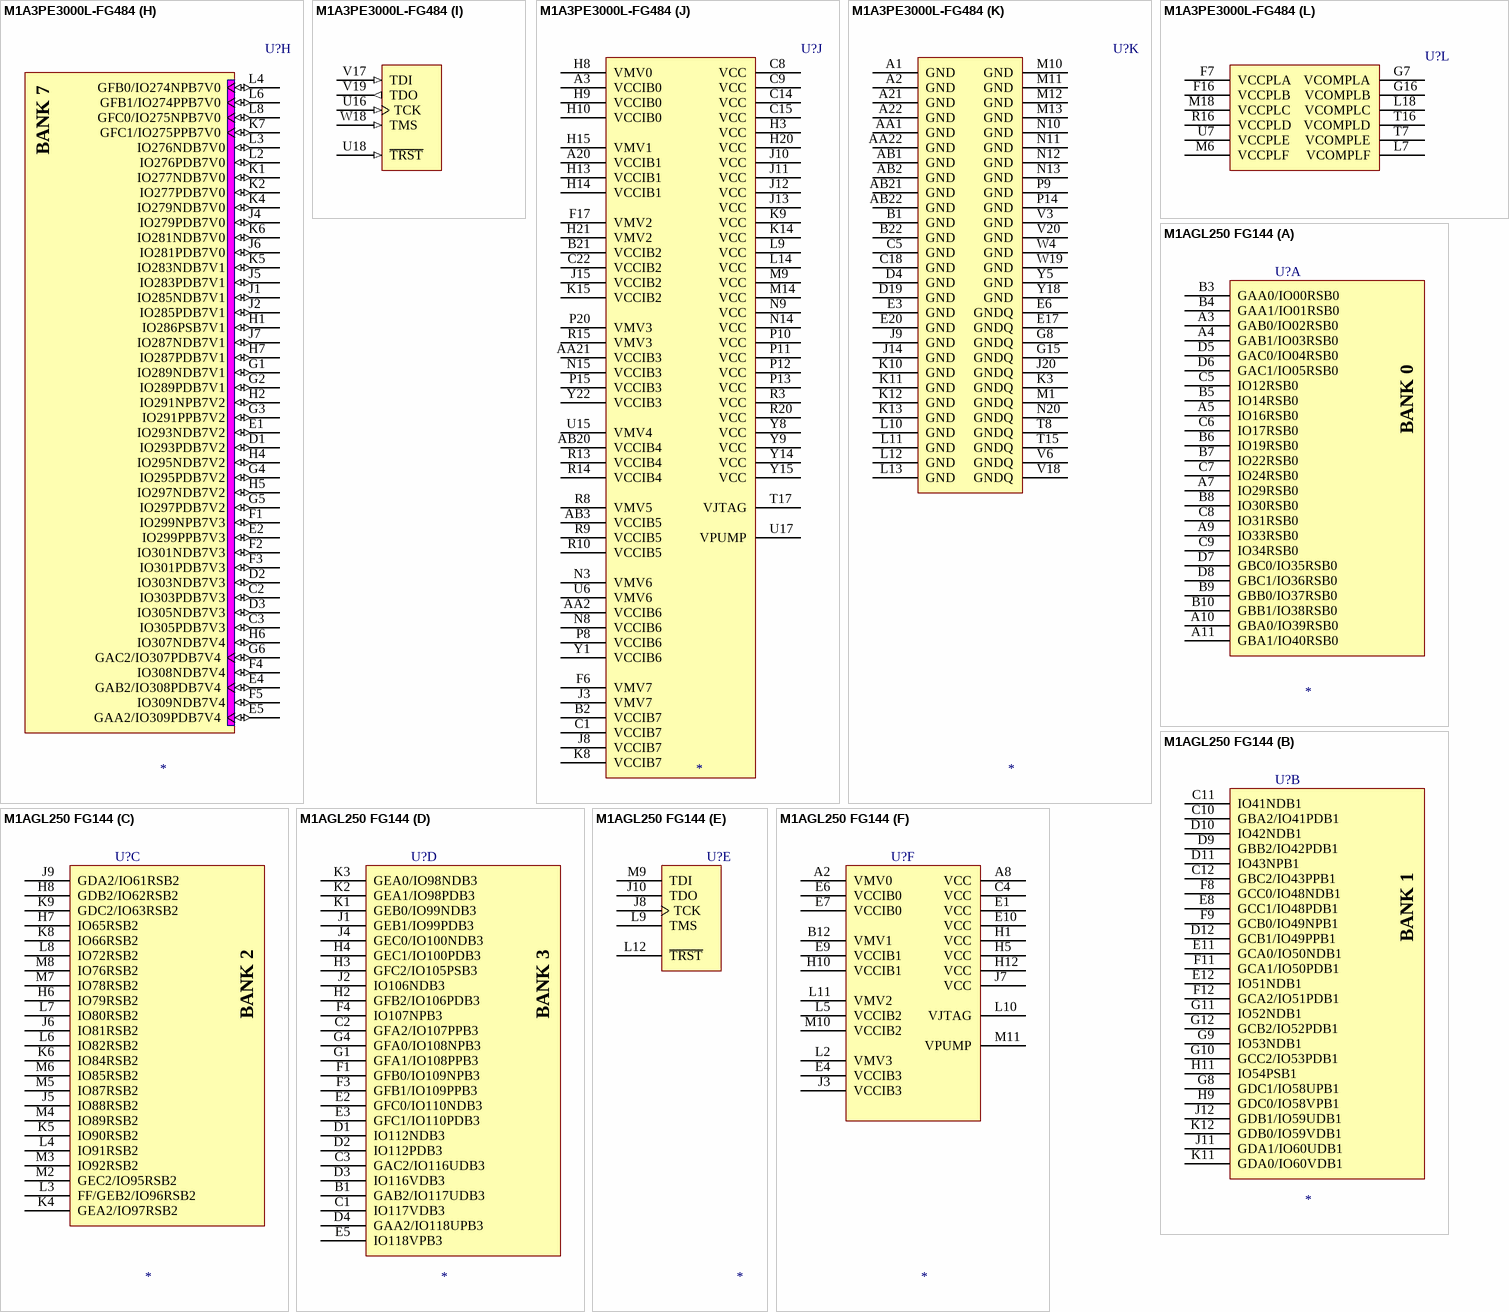
[diagram p6: symbols M1A3PE3000L-FG484 to M1AGL250 FG144]

## M1A3PE3000L-FG484
designator U?
Military ProASIC3/EL Low Power Flash FPGAs  with Flash*Freeze Technology; Value: *
footprint BGA484 P1.0 C23X23 H3.5 (BGA, 484-Leads, Body 23x23mm, Pitch 1mm, Radiation Tolerant)
part A pins: A4 IO10NDB0V1 (io), A5 IO10PDB0V1 (io), A6 IO16NDB0V1 (io), A7 IO16PDB0V1 (io), A8 IO18PDB0V2 (io), A9 IO24PDB0V2 (io), A10 IO28NDB0V3 (io), A11 IO28PDB0V3 (io), B3 IO06PPB0V0 (io), B4 IO08NDB0V0 (io), B5 IO08PDB0V0 (io), B6 IO14NDB0V1 (io), B7 IO14PDB0V1 (io), B8 IO18NDB0V2 (io), B9 IO24NDB0V2 (io), B10 IO34PDB0V4 (io), B11 IO40PDB0V4 (io), C4 IO06NPB0V0 (io), C6 IO12NDB0V1 (io), C7 IO12PDB0V1 (io), C10 IO34NDB0V4 (io), C11 IO40NDB0V4 (io), D5 GAA0/IO00NDB0V0 (io), D6 GAA1/IO00PDB0V0 (io), D7 GAB0/IO01NDB0V0 (io), D8 IO20PDB0V2 (io), D9 IO22PDB0V2 (io), D10 IO30PDB0V3 (io), D11 IO38NDB0V4 (io), E7 GAB1/IO01PDB0V0 (io), E8 IO20NDB0V2 (io), E9 IO22NDB0V2 (io), E10 IO30NDB0V3 (io), E11 IO38PDB0V4 (io), F8 GAC0/IO02NDB0V0 (io), F9 GAC1/IO02PDB0V0 (io), F10 IO32NDB0V3 (io), F11 IO32PDB0V3 (io), G9 IO26NDB0V3 (io), G10 IO26PDB0V3 (io), G11 IO36PDB0V4 (io), H11 IO36NDB0V4 (io)
part B pins: A12 IO46PDB1V0 (io), A13 IO54PDB1V1 (io), A14 IO56NDB1V1 (io), A15 IO56PDB1V1 (io), A16 IO64NDB1V2 (io), A17 IO64PDB1V2 (io), A18 IO72NDB1V3 (io), A19 IO74NDB1V4 (io), B12 IO46NDB1V0 (io), B13 IO54NDB1V1 (io), B14 IO62NDB1V2 (io), B15 IO62PDB1V2 (io), B16 IO68NDB1V3 (io), B17 IO68PDB1V3 (io), B18 IO72PDB1V3 (io), B19 IO74PDB1V4 (io), B20 IO76NPB1V4 (io), C12 IO48NDB1V0 (io), C13 IO48PDB1V0 (io), C16 IO70NDB1V3 (io), C17 IO70PDB1V3 (io), C19 IO76PPB1V4 (io), D12 IO52NDB1V1 (io), D13 IO52PDB1V1 (io), D14 IO66NDB1V3 (io), D15 IO66PDB1V3 (io), D16 GBB1/IO80PDB1V4 (io), D17 GBA0/IO81NDB1V4 (io), D18 GBA1/IO81PDB1V4 (io), E12 IO44NDB1V0 (io), E13 IO58NDB1V2 (io), E14 IO58PDB1V2 (io), E15 GBC1/IO79PDB1V4 (io), E16 GBB0/IO80NDB1V4 (io), F12 IO44PDB1V0 (io), F13 IO50NDB1V1 (io), F14 IO60PDB1V2 (io), F15 GBC0/IO79NDB1V4 (io), G12 IO42PDB1V0 (io), G13 IO50PDB1V1 (io), G14 IO60NDB1V2 (io), H12 IO42NDB1V0 (io)
part C pins: C20 IO88NDB2V0 (io), C21 IO94PPB2V1 (io), D20 IO88PDB2V0 (io), D21 IO90PDB2V1 (io), D22 IO94NPB2V1 (io), E18 GBA2/IO82PDB2V0 (io), E19 IO86NDB2V0 (io), E21 IO90NDB2V1 (io), E22 IO98PDB2V2 (io), F18 IO82NDB2V0 (io), F19 IO86PDB2V0 (io), F20 IO96PDB2V1 (io), F21 IO96NDB2V1 (io), F22 IO98NDB2V2 (io), G17 GBB2/IO83PDB2V0 (io), G18 IO92PDB2V1 (io), G19 IO92NDB2V1 (io), G20 IO102PDB2V2 (io), G21 IO102NDB2V2 (io), G22 IO105NDB2V2 (io), H16 GBC2/IO84PDB2V0 (io), H17 IO83NDB2V0 (io), H18 IO100NDB2V2 (io), H19 IO100PDB2V2 (io), H22 IO105PDB2V2 (io), J16 IO84NDB2V0 (io), J17 IO104NDB2V2 (io), J18 IO104PDB2V2 (io), J19 IO106PPB2V3 (io), J21 IO109PDB2V3 (io), J22 IO107PDB2V3 (io), K16 GCC1/IO112PPB2V3 (io), K17 IO108NDB2V3 (io), K18 IO108PDB2V3 (io), K19 IO110NPB2V3 (io), K20 IO106NPB2V3 (io), K21 IO109NDB2V3 (io), K22 IO107NDB2V3 (io), L15 GCC0/IO112NPB2V3 (io), L16 GCB1/IO113PPB2V3 (io), L19 GCB0/IO113NPB2V3 (io), L20 IO110PPB2V3 (io), L21 IO111NDB2V3 (io), L22 IO111PDB2V3 (io)
part D pins: L17 GCA0/IO114NPB3V0 (io), M15 GCB2/IO116PPB3V0 (io), M16 GCA1/IO114PPB3V0 (io), M17 GCC2/IO117PPB3V0 (io), M19 GCA2/IO115PDB3V0 (io), M20 IO115NDB3V0 (io), M21 IO126PDB3V1 (io), M22 IO124PSB3V1 (io), N16 IO116NPB3V0 (io), N17 IO132NPB3V2 (io), N18 IO117NPB3V0 (io), N19 IO132PPB3V2 (io), N21 IO126NDB3V1 (io), N22 IO128PDB3V1 (io), P16 GDB0/IO152NPB3V4 (io), P17 IO136NDB3V2 (io), P18 IO136PDB3V2 (io), P19 IO138PDB3V3 (io), P21 IO130PDB3V2 (io), P22 IO128NDB3V1 (io), R17 GDB1/IO152PPB3V4 (io), R18 GDC1/IO151PDB3V4 (io), R19 IO138NDB3V3 (io), R21 IO130NDB3V2 (io), R22 IO134PDB3V2 (io), T18 GDC0/IO151NDB3V4 (io), T19 GDA1/IO153PDB3V4 (io), T20 IO144PDB3V3 (io), T21 IO140PDB3V3 (io), T22 IO134NDB3V2 (io), U19 GDA0/IO153NDB3V4 (io), U20 IO144NDB3V3 (io), U21 IO140NDB3V3 (io), U22 IO142PDB3V3 (io), V21 IO146PDB3V4 (io), V22 IO142NDB3V3 (io), W20 IO150NDB3V4 (io), W21 IO146NDB3V4 (io), W22 IO148PPB3V4 (io), Y20 IO150PDB3V4 (io), Y21 IO148NPB3V4 (io)
part E pins: AA11 IO188PPB4V4 (io), AA12 IO180NDB4V3 (io), AA13 IO180PDB4V3 (io), AA14 IO170NDB4V2 (io), AA15 IO170PDB4V2 (io), AA16 IO166NDB4V1 (io), AA17 IO166PDB4V1 (io), AA18 IO160NDB4V0 (io), AA19 IO160PDB4V0 (io), AA20 IO158NPB4V0 (io), AB12 IO174NDB4V2 (io), AB13 IO174PDB4V2 (io), AB14 IO172NDB4V2 (io), AB15 IO172PDB4V2 (io), AB16 IO168NDB4V1 (io), AB17 IO168PDB4V1 (io), AB18 IO162NDB4V1 (io), AB19 IO162PDB4V1 (io), T13 IO186NDB4V4 (io), T14 IO186PDB4V4 (io), U13 IO176NDB4V2 (io), U14 IO176PDB4V2 (io), V13 IO178NDB4V3 (io), V14 IO178PDB4V3 (io), V15 IO155NDB4V0 (io), V16 GDB2/IO155PDB4V0 (io), W11 IO192NDB4V4 (io), W12 IO184NDB4V3 (io), W13 IO184PDB4V3 (io), W14 IO156NDB4V0 (io), W15 GDC2/IO156PDB4V0 (io), W16 IO154NDB4V0 (io), W17 GDA2/IO154PDB4V0 (io), Y11 IO192PDB4V4 (io), Y12 IO188NPB4V4 (io), Y13 IO187PSB4V4 (io), Y16 IO164NDB4V1 (io), Y17 IO164PDB4V1 (io), Y19 IO158PPB4V0 (io)
part F pins: AA3 IO228PDB5V4 (io), AA4 IO224PDB5V3 (io), AA5 IO218NDB5V3 (io), AA6 IO218PDB5V3 (io), AA7 IO212NDB5V2 (io), AA8 IO212PDB5V2 (io), AA9 IO198PDB5V0 (io), AA10 IO198NDB5V0 (io), AB4 IO216NDB5V2 (io), AB5 IO216PDB5V2 (io), AB6 IO210NDB5V2 (io), AB7 IO210PDB5V2 (io), AB8 IO208NDB5V1 (io), AB9 IO208PDB5V1 (io), AB10 IO197NDB5V0 (io), AB11 IO197PDB5V0 (io), R11 IO196NDB5V0 (io), R12 IO196PDB5V0 (io), T9 GEA2/IO233PPB5V4 (io), T10 IO206NDB5V1 (io), T11 IO202NDB5V1 (io), T12 IO194NDB5V0 (io), U8 IO233NPB5V4 (io), U9 IO222PPB5V3 (io), U10 IO206PDB5V1 (io), U11 IO202PDB5V1 (io), U12 IO194PDB5V0 (io), V7 GEC2/IO231PDB5V4 (io), V8 IO222NPB5V3 (io), V9 IO204NDB5V1 (io), V10 IO204PDB5V1 (io), V11 IO195NDB5V0 (io), V12 IO195PDB5V0 (io), W3 IO230PSB5V4 (io), W5 IO232NDB5V4 (io), W6 ~{FF}/GEB2/IO232PDB5V4 (io), W7 IO231NDB5V4 (io), W8 IO214NDB5V2 (io), W9 IO214PDB5V2 (io), W10 IO200NDB5V0 (io), Y3 IO228NDB5V4 (io), Y4 IO224NDB5V3 (io), Y6 IO220NDB5V3 (io), Y7 IO220PDB5V3 (io), Y10 IO200PDB5V0 (io)
part G pins: L1 IO257PSB6V2 (io), L5 GFA0/IO273NDB6V4 (io), M2 IO255NPB6V2 (io), M3 IO272NDB6V4 (io), M4 GFA2/IO272PDB6V4 (io), M5 GFA1/IO273PDB6V4 (io), M7 IO271NDB6V4 (io), M8 GFB2/IO271PDB6V4 (io), N1 IO255PPB6V2 (io), N2 IO253NDB6V2 (io), N4 GFC2/IO270PPB6V4 (io), N5 IO261PPB6V3 (io), N6 IO263PDB6V3 (io), N7 IO263NDB6V3 (io), P1 IO247PDB6V1 (io), P2 IO253PDB6V2 (io), P3 IO270NPB6V4 (io), P4 IO261NPB6V3 (io), P5 IO249PPB6V1 (io), P6 IO259PDB6V3 (io), P7 IO259NDB6V3 (io), R1 IO247NDB6V1 (io), R2 IO245PDB6V1 (io), R4 IO249NPB6V1 (io), R5 IO251NDB6V2 (io), R6 IO251PDB6V2 (io), R7 GEC0/IO236NPB6V0 (io), T1 IO243PPB6V1 (io), T2 IO245NDB6V1 (io), T3 IO243NPB6V1 (io), T4 IO241PDB6V0 (io), T5 IO241NDB6V0 (io), T6 GEC1/IO236PPB6V0 (io), U1 IO240PPB6V0 (io), U2 IO238PDB6V0 (io), U3 IO238NDB6V0 (io), U4 GEB1/IO235PDB6V0 (io), U5 GEB0/IO235NDB6V0 (io), V1 IO239PDB6V0 (io), V2 IO240NPB6V0 (io), V4 GEA1/IO234PDB6V0 (io), V5 GEA0/IO234NDB6V0 (io), W1 IO239NDB6V0 (io), W2 IO237PDB6V0 (io), Y2 IO237NDB6V0 (io)
part H pins: C2 IO303PDB7V3 (io), C3 IO305PDB7V3 (io), D1 IO293PDB7V2 (io), D2 IO303NDB7V3 (io), D3 IO305NDB7V3 (io), E1 IO293NDB7V2 (io), E2 IO299PPB7V3 (io), E4 GAB2/IO308PDB7V4 (io), E5 GAA2/IO309PDB7V4 (io), F1 IO299NPB7V3 (io), F2 IO301NDB7V3 (io), F3 IO301PDB7V3 (io), F4 IO308NDB7V4 (io), F5 IO309NDB7V4 (io), G1 IO289NDB7V1 (io), G2 IO289PDB7V1 (io), G3 IO291PPB7V2 (io), G4 IO295PDB7V2 (io), G5 IO297PDB7V2 (io), G6 GAC2/IO307PDB7V4 (io), H1 IO286PSB7V1 (io), H2 IO291NPB7V2 (io), H4 IO295NDB7V2 (io), H5 IO297NDB7V2 (io), H6 IO307NDB7V4 (io), H7 IO287PDB7V1 (io), J1 IO285NDB7V1 (io), J2 IO285PDB7V1 (io), J4 IO279PDB7V0 (io), J5 IO283PDB7V1 (io), J6 IO281PDB7V0 (io), J7 IO287NDB7V1 (io), K1 IO277NDB7V0 (io), K2 IO277PDB7V0 (io), K4 IO279NDB7V0 (io), K5 IO283NDB7V1 (io), K6 IO281NDB7V0 (io), K7 GFC1/IO275PPB7V0 (io), L2 IO276PDB7V0 (io), L3 IO276NDB7V0 (io), L4 GFB0/IO274NPB7V0 (io), L6 GFB1/IO274PPB7V0 (io), L8 GFC0/IO275NPB7V0 (io)
part I pins: U16 TCK (in), U18 ~{TRST} (in), V17 TDI (in), V19 TDO (out), W18 TMS (in)
part J pins: A3 VCCIB0 (power), A20 VCCIB1 (power), AA2 VCCIB6 (power), AA21 VCCIB3 (power), AB3 VCCIB5 (power), AB20 VCCIB4 (power), B2 VCCIB7 (power), B21 VCCIB2 (power), C1 VCCIB7 (power), C8 VCC (power), C9 VCC (power), C14 VCC (power), C15 VCC (power), C22 VCCIB2 (power), F6 VMV7 (power), F17 VMV2 (power), H3 VCC (power), H8 VMV0 (power), H9 VCCIB0 (power), H10 VCCIB0 (power), H13 VCCIB1 (power), H14 VCCIB1 (power), H15 VMV1 (power), H20 VCC (power), H21 VMV2 (power), J3 VMV7 (power), J8 VCCIB7 (power), J10 VCC (power), J11 VCC (power), J12 VCC (power), J13 VCC (power), J15 VCCIB2 (power), K8 VCCIB7 (power), K9 VCC (power), K14 VCC (power), K15 VCCIB2 (power), L9 VCC (power), L14 VCC (power), M9 VCC (power), M14 VCC (power), N3 VMV6 (power), N8 VCCIB6 (power), N9 VCC (power), N14 VCC (power), N15 VCCIB3 (power), P8 VCCIB6 (power), P10 VCC (power), P11 VCC (power), P12 VCC (power), P13 VCC (power), P15 VCCIB3 (power), P20 VMV3 (power), R3 VCC (power), R8 VMV5 (power), R9 VCCIB5 (power), R10 VCCIB5 (power), R13 VCCIB4 (power), R14 VCCIB4 (power), R15 VMV3 (power), R20 VCC (power), T17 VJTAG (power), U6 VMV6 (power), U15 VMV4 (power), U17 VPUMP (power), Y1 VCCIB6 (power), Y8 VCC (power), Y9 VCC (power), Y14 VCC (power), Y15 VCC (power), Y22 VCCIB3 (power)
part K pins: A1 GND (power), A2 GND (power), A21 GND (power), A22 GND (power), AA1 GND (power), AA22 GND (power), AB1 GND (power), AB2 GND (power), AB21 GND (power), AB22 GND (power), B1 GND (power), B22 GND (power), C5 GND (power), C18 GND (power), D4 GND (power), D19 GND (power), E3 GND (power), E6 GNDQ (power), E17 GNDQ (power), E20 GND (power), G8 GNDQ (power), G15 GNDQ (power), J9 GND (power), J14 GND (power), J20 GNDQ (power), K3 GNDQ (power), K10 GND (power), K11 GND (power), K12 GND (power), K13 GND (power), L10 GND (power), L11 GND (power), L12 GND (power), L13 GND (power), M1 GNDQ (power), M10 GND (power), M11 GND (power), M12 GND (power), M13 GND (power), N10 GND (power), N11 GND (power), N12 GND (power), N13 GND (power), N20 GNDQ (power), P9 GND (power), P14 GND (power), T8 GNDQ (power), T15 GNDQ (power), V3 GND (power), V6 GNDQ (power), V18 GNDQ (power), V20 GND (power), W4 GND (power), W19 GND (power), Y5 GND (power), Y18 GND (power)
part L pins: F7 VCCPLA (power), F16 VCCPLB (power), G7 VCOMPLA (power), G16 VCOMPLB (power), L7 VCOMPLF (power), L18 VCOMPLC (power), M6 VCCPLF (power), M18 VCCPLC (power), R16 VCCPLD (power), T7 VCOMPLE (power), T16 VCOMPLD (power), U7 VCCPLE (power)
part A text: BANK 0
part B text: BANK 1
part C text: BANK 2
part D text: BANK 3
part E text: BANK 4
part F text: BANK 5
part G text: BANK 6
part H text: BANK 7

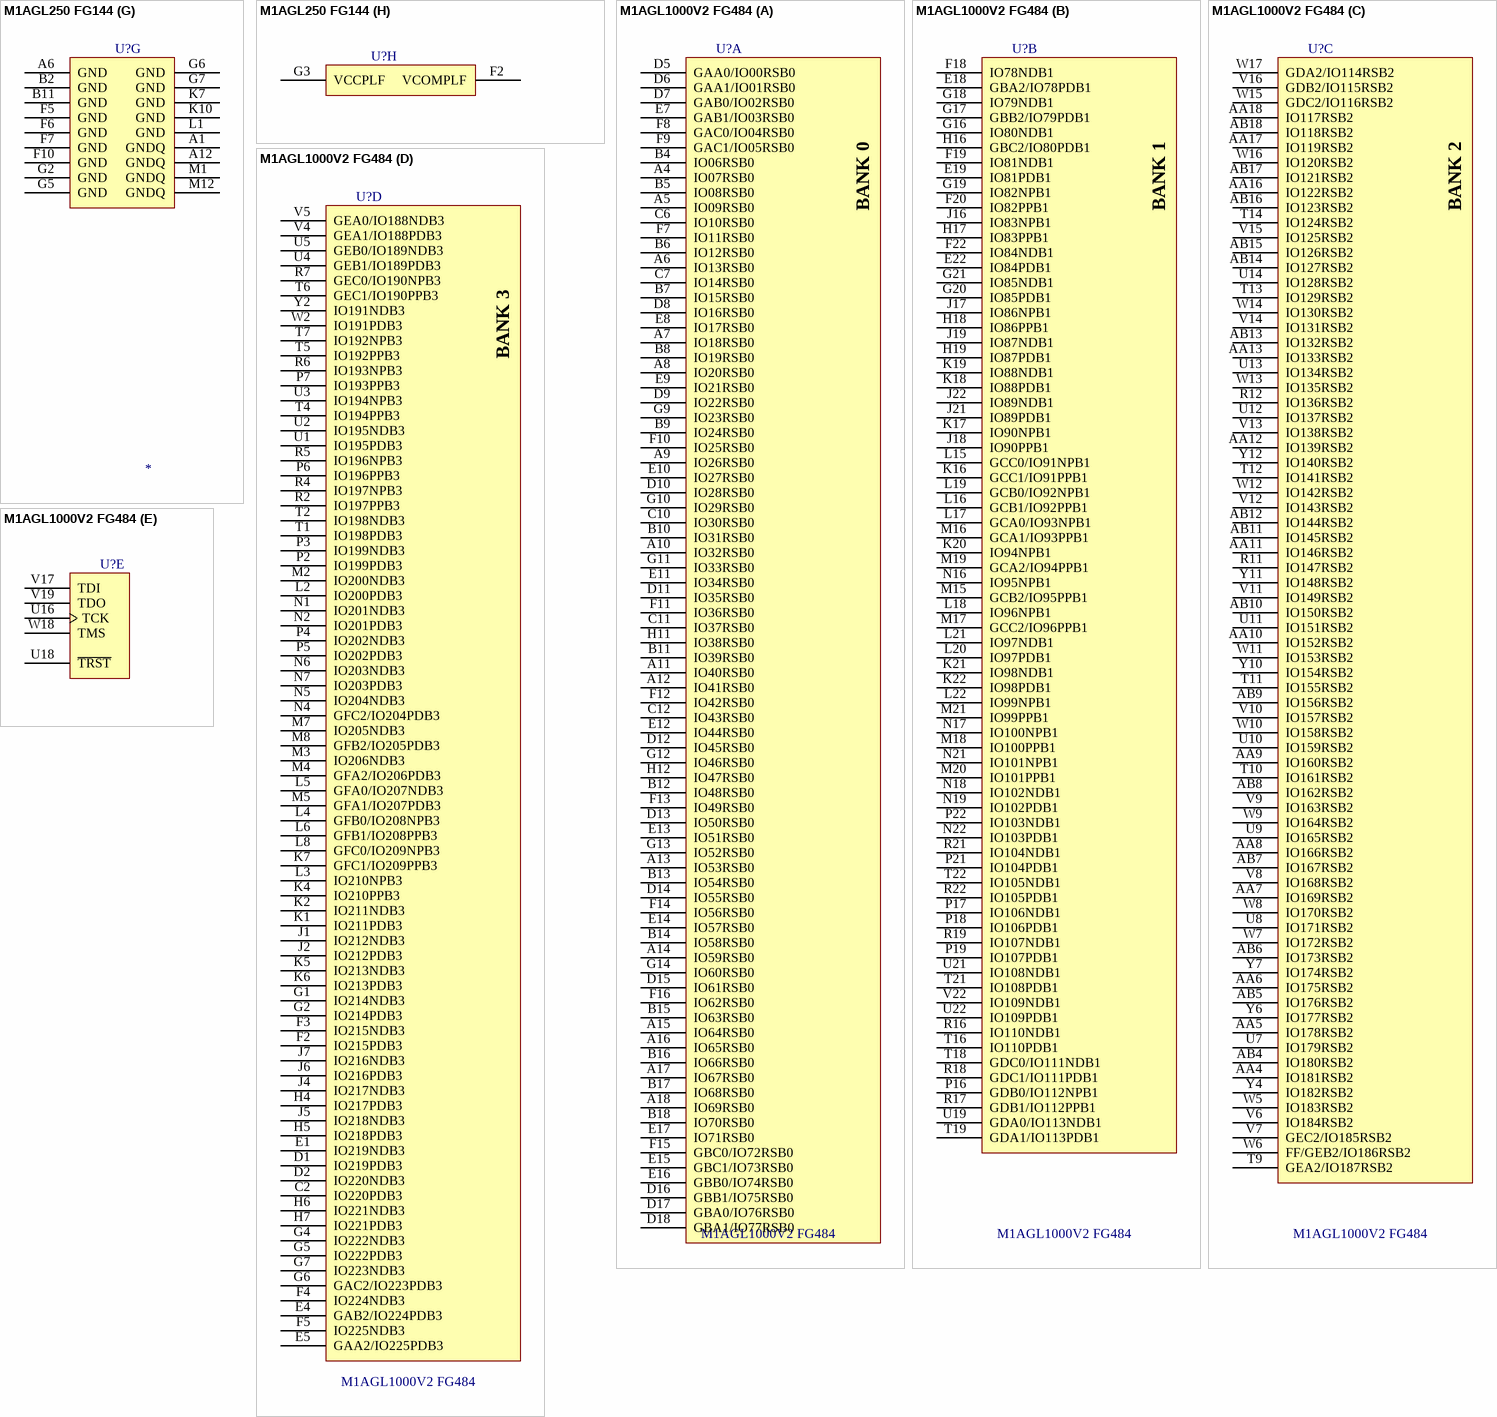
[diagram p7: symbols M1AGL250 FG144 to M1AGL1000V2 FG484]

## M1AGL250 FG144
designator U?
IGLOO Low Power Flash FPGAs With Flash*Freeze Technology; Value: *
footprint BGA144 P1.0 C13X13 H1.45 (BGA, 144-Leads, Body 13x13mm, Pitch 1mm, Height 1.45mm)
part A pins: A3 GAB0/IO02RSB0, A4 GAB1/IO03RSB0, A5 IO16RSB0, A7 IO29RSB0, A9 IO33RSB0, A10 GBA0/IO39RSB0, A11 GBA1/IO40RSB0, B3 GAA0/IO00RSB0, B4 GAA1/IO01RSB0, B5 IO14RSB0, B6 IO19RSB0, B7 IO22RSB0, B8 IO30RSB0, B9 GBB0/IO37RSB0, B10 GBB1/IO38RSB0, C5 IO12RSB0, C6 IO17RSB0, C7 IO24RSB0, C8 IO31RSB0, C9 IO34RSB0, D5 GAC0/IO04RSB0, D6 GAC1/IO05RSB0, D7 GBC0/IO35RSB0, D8 GBC1/IO36RSB0
part B pins: C10 GBA2/IO41PDB1, C11 IO41NDB1, C12 GBC2/IO43PPB1, D9 GBB2/IO42PDB1, D10 IO42NDB1, D11 IO43NPB1, D12 GCB1/IO49PPB1, E8 GCC1/IO48PDB1, E11 GCA0/IO50NDB1, E12 IO51NDB1, F8 GCC0/IO48NDB1, F9 GCB0/IO49NPB1, F11 GCA1/IO50PDB1, F12 GCA2/IO51PDB1, G8 GDC1/IO58UPB1, G9 IO53NDB1, G10 GCC2/IO53PDB1, G11 IO52NDB1, G12 GCB2/IO52PDB1, H9 GDC0/IO58VPB1, H11 IO54PSB1, J11 GDA1/IO60UDB1, J12 GDB1/IO59UDB1, K11 GDA0/IO60VDB1, K12 GDB0/IO59VDB1
part C pins: H6 IO79RSB2, H7 IO65RSB2, H8 GDB2/IO62RSB2, J5 IO88RSB2, J6 IO81RSB2, J9 GDA2/IO61RSB2, K4 GEA2/IO97RSB2, K5 IO90RSB2, K6 IO84RSB2, K8 IO66RSB2, K9 GDC2/IO63RSB2, L3 FF/GEB2/IO96RSB2, L4 IO91RSB2, L6 IO82RSB2, L7 IO80RSB2, L8 IO72RSB2, M2 GEC2/IO95RSB2, M3 IO92RSB2, M4 IO89RSB2, M5 IO87RSB2, M6 IO85RSB2, M7 IO78RSB2, M8 IO76RSB2
part D pins: B1 GAB2/IO117UDB3, C1 IO117VDB3, C2 GFA2/IO107PPB3, C3 GAC2/IO116UDB3, D1 IO112NDB3, D2 IO112PDB3, D3 IO116VDB3, D4 GAA2/IO118UPB3, E2 GFC0/IO110NDB3, E3 GFC1/IO110PDB3, E5 IO118VPB3, F1 GFB0/IO109NPB3, F3 GFB1/IO109PPB3, F4 IO107NPB3, G1 GFA1/IO108PPB3, G4 GFA0/IO108NPB3, H2 GFB2/IO106PDB3, H3 GFC2/IO105PSB3, H4 GEC1/IO100PDB3, J1 GEB1/IO99PDB3, J2 IO106NDB3, J4 GEC0/IO100NDB3, K1 GEB0/IO99NDB3, K2 GEA1/IO98PDB3, K3 GEA0/IO98NDB3
part E pins: J8 TCK, J10 TDO, L9 TMS, L12 ~{TRST}, M9 TDI
part F pins: A2 VMV0, A8 VCC, B12 VMV1, C4 VCC, E1 VCC, E4 VCCIB3, E6 VCCIB0, E7 VCCIB0, E9 VCCIB1, E10 VCC, H1 VCC, H5 VCC, H10 VCCIB1, H12 VCC, J3 VCCIB3, J7 VCC, L2 VMV3, L5 VCCIB2, L10 VJTAG, L11 VMV2, M10 VCCIB2, M11 VPUMP
part G pins: A1 GNDQ, A6 GND, A12 GNDQ, B2 GND, B11 GND, F5 GND, F6 GND, F7 GND, F10 GND, G2 GND, G5 GND, G6 GND, G7 GND, K7 GND, K10 GND, L1 GND, M1 GNDQ, M12 GNDQ
part H pins: F2 VCOMPLF, G3 VCCPLF
part A text: BANK 0
part B text: BANK 1
part C text: BANK 2
part D text: BANK 3

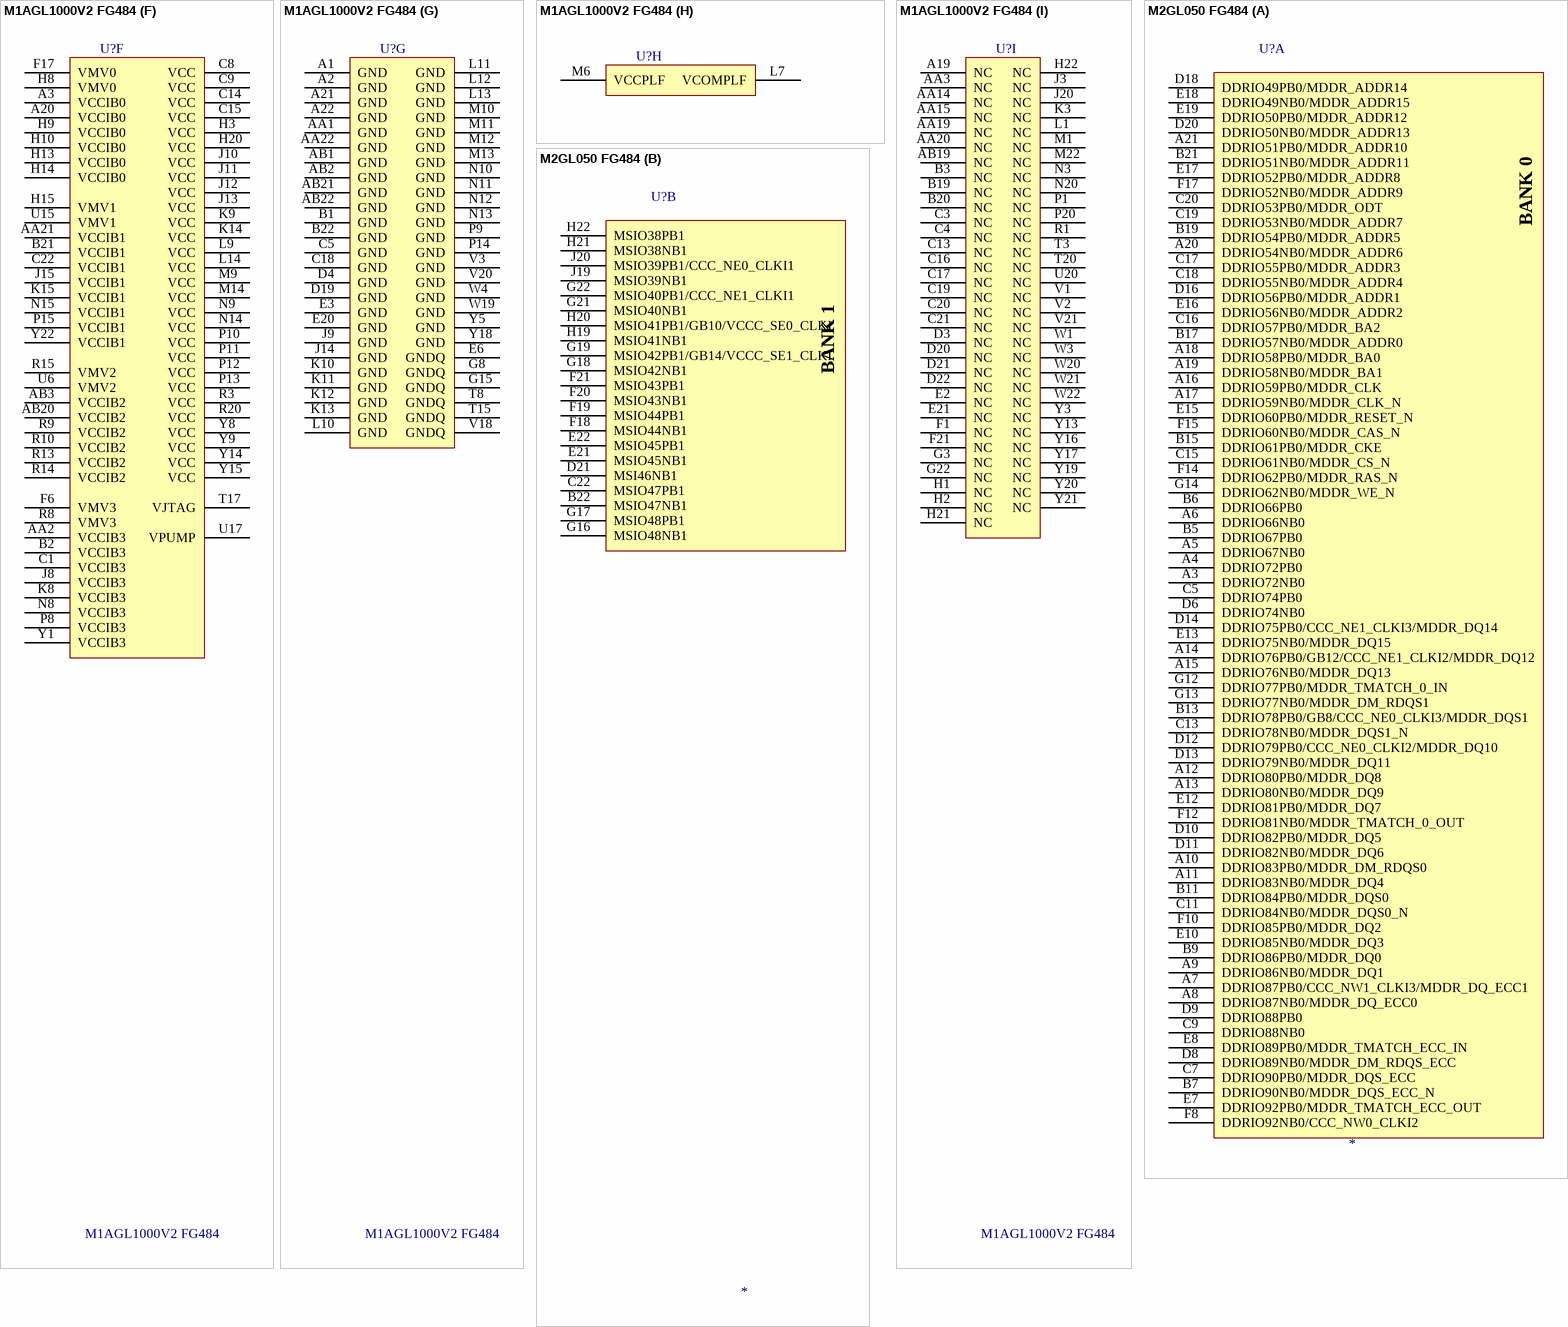
[diagram p8: symbols M1AGL1000V2 FG484 to M2GL050 FG484]

## M1AGL1000V2 FG484
designator U?
IGLOO Low Power Flash FPGAs With Flash*Freeze Technology
footprint BGA484 P1.0 C23X23 H2.2 (BGA, 484-Balls, Body 23x23mm, Pitch 1mm, Microsemi)
part A pins: A4 IO07RSB0, A5 IO09RSB0, A6 IO13RSB0, A7 IO18RSB0, A8 IO20RSB0, A9 IO26RSB0, A10 IO32RSB0, A11 IO40RSB0, A12 IO41RSB0, A13 IO53RSB0, A14 IO59RSB0, A15 IO64RSB0, A16 IO65RSB0, A17 IO67RSB0, A18 IO69RSB0, B4 IO06RSB0, B5 IO08RSB0, B6 IO12RSB0, B7 IO15RSB0, B8 IO19RSB0, B9 IO24RSB0, B10 IO31RSB0, B11 IO39RSB0, B12 IO48RSB0, B13 IO54RSB0, B14 IO58RSB0, B15 IO63RSB0, B16 IO66RSB0, B17 IO68RSB0, B18 IO70RSB0, C6 IO10RSB0, C7 IO14RSB0, C10 IO30RSB0, C11 IO37RSB0, C12 IO43RSB0, D5 GAA0/IO00RSB0, D6 GAA1/IO01RSB0, D7 GAB0/IO02RSB0, D8 IO16RSB0, D9 IO22RSB0, D10 IO28RSB0, D11 IO35RSB0, D12 IO45RSB0, D13 IO50RSB0, D14 IO55RSB0, D15 IO61RSB0, D16 GBB1/IO75RSB0, D17 GBA0/IO76RSB0, D18 GBA1/IO77RSB0, E7 GAB1/IO03RSB0, E8 IO17RSB0, E9 IO21RSB0, E10 IO27RSB0, E11 IO34RSB0, E12 IO44RSB0, E13 IO51RSB0, E14 IO57RSB0, E15 GBC1/IO73RSB0, E16 GBB0/IO74RSB0, E17 IO71RSB0, F7 IO11RSB0, F8 GAC0/IO04RSB0, F9 GAC1/IO05RSB0, F10 IO25RSB0, F11 IO36RSB0, F12 IO42RSB0, F13 IO49RSB0, F14 IO56RSB0, F15 GBC0/IO72RSB0, F16 IO62RSB0, G9 IO23RSB0, G10 IO29RSB0, G11 IO33RSB0, G12 IO46RSB0, G13 IO52RSB0, G14 IO60RSB0, H11 IO38RSB0, H12 IO47RSB0
part B pins: E18 GBA2/IO78PDB1, E19 IO81PDB1, E22 IO84PDB1, F18 IO78NDB1, F19 IO81NDB1, F20 IO82PPB1, F22 IO84NDB1, G16 IO80NDB1, G17 GBB2/IO79PDB1, G18 IO79NDB1, G19 IO82NPB1, G20 IO85PDB1, G21 IO85NDB1, H16 GBC2/IO80PDB1, H17 IO83PPB1, H18 IO86PPB1, H19 IO87PDB1, J16 IO83NPB1, J17 IO86NPB1, J18 IO90PPB1, J19 IO87NDB1, J21 IO89PDB1, J22 IO89NDB1, K16 GCC1/IO91PPB1, K17 IO90NPB1, K18 IO88PDB1, K19 IO88NDB1, K20 IO94NPB1, K21 IO98NDB1, K22 IO98PDB1, L15 GCC0/IO91NPB1, L16 GCB1/IO92PPB1, L17 GCA0/IO93NPB1, L18 IO96NPB1, L19 GCB0/IO92NPB1, L20 IO97PDB1, L21 IO97NDB1, L22 IO99NPB1, M15 GCB2/IO95PPB1, M16 GCA1/IO93PPB1, M17 GCC2/IO96PPB1, M18 IO100PPB1, M19 GCA2/IO94PPB1, M20 IO101PPB1, M21 IO99PPB1, N16 IO95NPB1, N17 IO100NPB1, N18 IO102NDB1, N19 IO102PDB1, N21 IO101NPB1, N22 IO103PDB1, P16 GDB0/IO112NPB1, P17 IO106NDB1, P18 IO106PDB1, P19 IO107PDB1, P21 IO104PDB1, P22 IO103NDB1, R16 IO110NDB1, R17 GDB1/IO112PPB1, R18 GDC1/IO111PDB1, R19 IO107NDB1, R21 IO104NDB1, R22 IO105PDB1, T16 IO110PDB1, T18 GDC0/IO111NDB1, T19 GDA1/IO113PDB1, T21 IO108PDB1, T22 IO105NDB1, U19 GDA0/IO113NDB1, U21 IO108NDB1, U22 IO109PDB1, V22 IO109NDB1
part C pins: AA4 IO181RSB2, AA5 IO178RSB2, AA6 IO175RSB2, AA7 IO169RSB2, AA8 IO166RSB2, AA9 IO160RSB2, AA10 IO152RSB2, AA11 IO146RSB2, AA12 IO139RSB2, AA13 IO133RSB2, AA16 IO122RSB2, AA17 IO119RSB2, AA18 IO117RSB2, AB4 IO180RSB2, AB5 IO176RSB2, AB6 IO173RSB2, AB7 IO167RSB2, AB8 IO162RSB2, AB9 IO156RSB2, AB10 IO150RSB2, AB11 IO145RSB2, AB12 IO144RSB2, AB13 IO132RSB2, AB14 IO127RSB2, AB15 IO126RSB2, AB16 IO123RSB2, AB17 IO121RSB2, AB18 IO118RSB2, R11 IO147RSB2, R12 IO136RSB2, T9 GEA2/IO187RSB2, T10 IO161RSB2, T11 IO155RSB2, T12 IO141RSB2, T13 IO129RSB2, T14 IO124RSB2, U7 IO179RSB2, U8 IO171RSB2, U9 IO165RSB2, U10 IO159RSB2, U11 IO151RSB2, U12 IO137RSB2, U13 IO134RSB2, U14 IO128RSB2, V6 IO184RSB2, V7 GEC2/IO185RSB2, V8 IO168RSB2, V9 IO163RSB2, V10 IO157RSB2, V11 IO149RSB2, V12 IO143RSB2, V13 IO138RSB2, V14 IO131RSB2, V15 IO125RSB2, V16 GDB2/IO115RSB2, W5 IO183RSB2, W6 FF/GEB2/IO186RSB2, W7 IO172RSB2, W8 IO170RSB2, W9 IO164RSB2, W10 IO158RSB2, W11 IO153RSB2, W12 IO142RSB2, W13 IO135RSB2, W14 IO130RSB2, W15 GDC2/IO116RSB2, W16 IO120RSB2, W17 GDA2/IO114RSB2, Y4 IO182RSB2, Y6 IO177RSB2, Y7 IO174RSB2, Y10 IO154RSB2, Y11 IO148RSB2, Y12 IO140RSB2
part D pins: C2 IO220PDB3, D1 IO219PDB3, D2 IO220NDB3, E1 IO219NDB3, E4 GAB2/IO224PDB3, E5 GAA2/IO225PDB3, F2 IO215PDB3, F3 IO215NDB3, F4 IO224NDB3, F5 IO225NDB3, G1 IO214NDB3, G2 IO214PDB3, G4 IO222NDB3, G5 IO222PDB3, G6 GAC2/IO223PDB3, G7 IO223NDB3, H4 IO217PDB3, H5 IO218PDB3, H6 IO221NDB3, H7 IO221PDB3, J1 IO212NDB3, J2 IO212PDB3, J4 IO217NDB3, J5 IO218NDB3, J6 IO216PDB3, J7 IO216NDB3, K1 IO211PDB3, K2 IO211NDB3, K4 IO210PPB3, K5 IO213NDB3, K6 IO213PDB3, K7 GFC1/IO209PPB3, L2 IO200PDB3, L3 IO210NPB3, L4 GFB0/IO208NPB3, L5 GFA0/IO207NDB3, L6 GFB1/IO208PPB3, L8 GFC0/IO209NPB3, M2 IO200NDB3, M3 IO206NDB3, M4 GFA2/IO206PDB3, M5 GFA1/IO207PDB3, M7 IO205NDB3, M8 GFB2/IO205PDB3, N1 IO201NDB3, N2 IO201PDB3, N4 GFC2/IO204PDB3, N5 IO204NDB3, N6 IO203NDB3, N7 IO203PDB3, P2 IO199PDB3, P3 IO199NDB3, P4 IO202NDB3, P5 IO202PDB3, P6 IO196PPB3, P7 IO193PPB3, R2 IO197PPB3, R4 IO197NPB3, R5 IO196NPB3, R6 IO193NPB3, R7 GEC0/IO190NPB3, T1 IO198PDB3, T2 IO198NDB3, T4 IO194PPB3, T5 IO192PPB3, T6 GEC1/IO190PPB3, T7 IO192NPB3, U1 IO195PDB3, U2 IO195NDB3, U3 IO194NPB3, U4 GEB1/IO189PDB3, U5 GEB0/IO189NDB3, V4 GEA1/IO188PDB3, V5 GEA0/IO188NDB3, W2 IO191PDB3, Y2 IO191NDB3
part E pins: U16 TCK, U18 ~{TRST}, V17 TDI, V19 TDO, W18 TMS
part F pins: A3 VCCIB0, A20 VCCIB0, AA2 VCCIB3, AA21 VCCIB1, AB3 VCCIB2, AB20 VCCIB2, B2 VCCIB3, B21 VCCIB1, C1 VCCIB3, C8 VCC, C9 VCC, C14 VCC, C15 VCC, C22 VCCIB1, F6 VMV3, F17 VMV0, H3 VCC, H8 VMV0, H9 VCCIB0, H10 VCCIB0, H13 VCCIB0, H14 VCCIB0, H15 VMV1, H20 VCC, J8 VCCIB3, J10 VCC, J11 VCC, J12 VCC, J13 VCC, J15 VCCIB1, K8 VCCIB3, K9 VCC, K14 VCC, K15 VCCIB1, L9 VCC, L14 VCC, M9 VCC, M14 VCC, N8 VCCIB3, N9 VCC, N14 VCC, N15 VCCIB1, P8 VCCIB3, P10 VCC, P11 VCC, P12 VCC, P13 VCC, P15 VCCIB1, R3 VCC, R8 VMV3, R9 VCCIB2, R10 VCCIB2, R13 VCCIB2, R14 VCCIB2, R15 VMV2, R20 VCC, T17 VJTAG, U6 VMV2, U15 VMV1, U17 VPUMP, Y1 VCCIB3, Y8 VCC, Y9 VCC, Y14 VCC, Y15 VCC, Y22 VCCIB1
part G pins: A1 GND, A2 GND, A21 GND, A22 GND, AA1 GND, AA22 GND, AB1 GND, AB2 GND, AB21 GND, AB22 GND, B1 GND, B22 GND, C5 GND, C18 GND, D4 GND, D19 GND, E3 GND, E6 GNDQ, E20 GND, G8 GNDQ, G15 GNDQ, J9 GND, J14 GND, K10 GND, K11 GND, K12 GND, K13 GND, L10 GND, L11 GND, L12 GND, L13 GND, M10 GND, M11 GND, M12 GND, M13 GND, N10 GND, N11 GND, N12 GND, N13 GND, P9 GND, P14 GND, T8 GNDQ, T15 GNDQ, V3 GND, V18 GNDQ, V20 GND, W4 GND, W19 GND, Y5 GND, Y18 GND
part H pins: L7 VCOMPLF, M6 VCCPLF
part I pins: A19 NC, AA3 NC, AA14 NC, AA15 NC, AA19 NC, AA20 NC, AB19 NC, B3 NC, B19 NC, B20 NC, C3 NC, C4 NC, C13 NC, C16 NC, C17 NC, C19 NC, C20 NC, C21 NC, D3 NC, D20 NC, D21 NC, D22 NC, E2 NC, E21 NC, F1 NC, F21 NC, G3 NC, G22 NC, H1 NC, H2 NC, H21 NC, H22 NC, J3 NC, J20 NC, K3 NC, L1 NC, M1 NC, M22 NC, N3 NC, N20 NC, P1 NC, P20 NC, R1 NC, T3 NC, T20 NC, U20 NC, V1 NC, V2 NC, V21 NC, W1 NC, W3 NC, W20 NC, W21 NC, W22 NC, Y3 NC, Y13 NC, Y16 NC, Y17 NC, Y19 NC, Y20 NC, Y21 NC
part A text: BANK 0
part B text: BANK 1
part C text: BANK 2
part D text: BANK 3

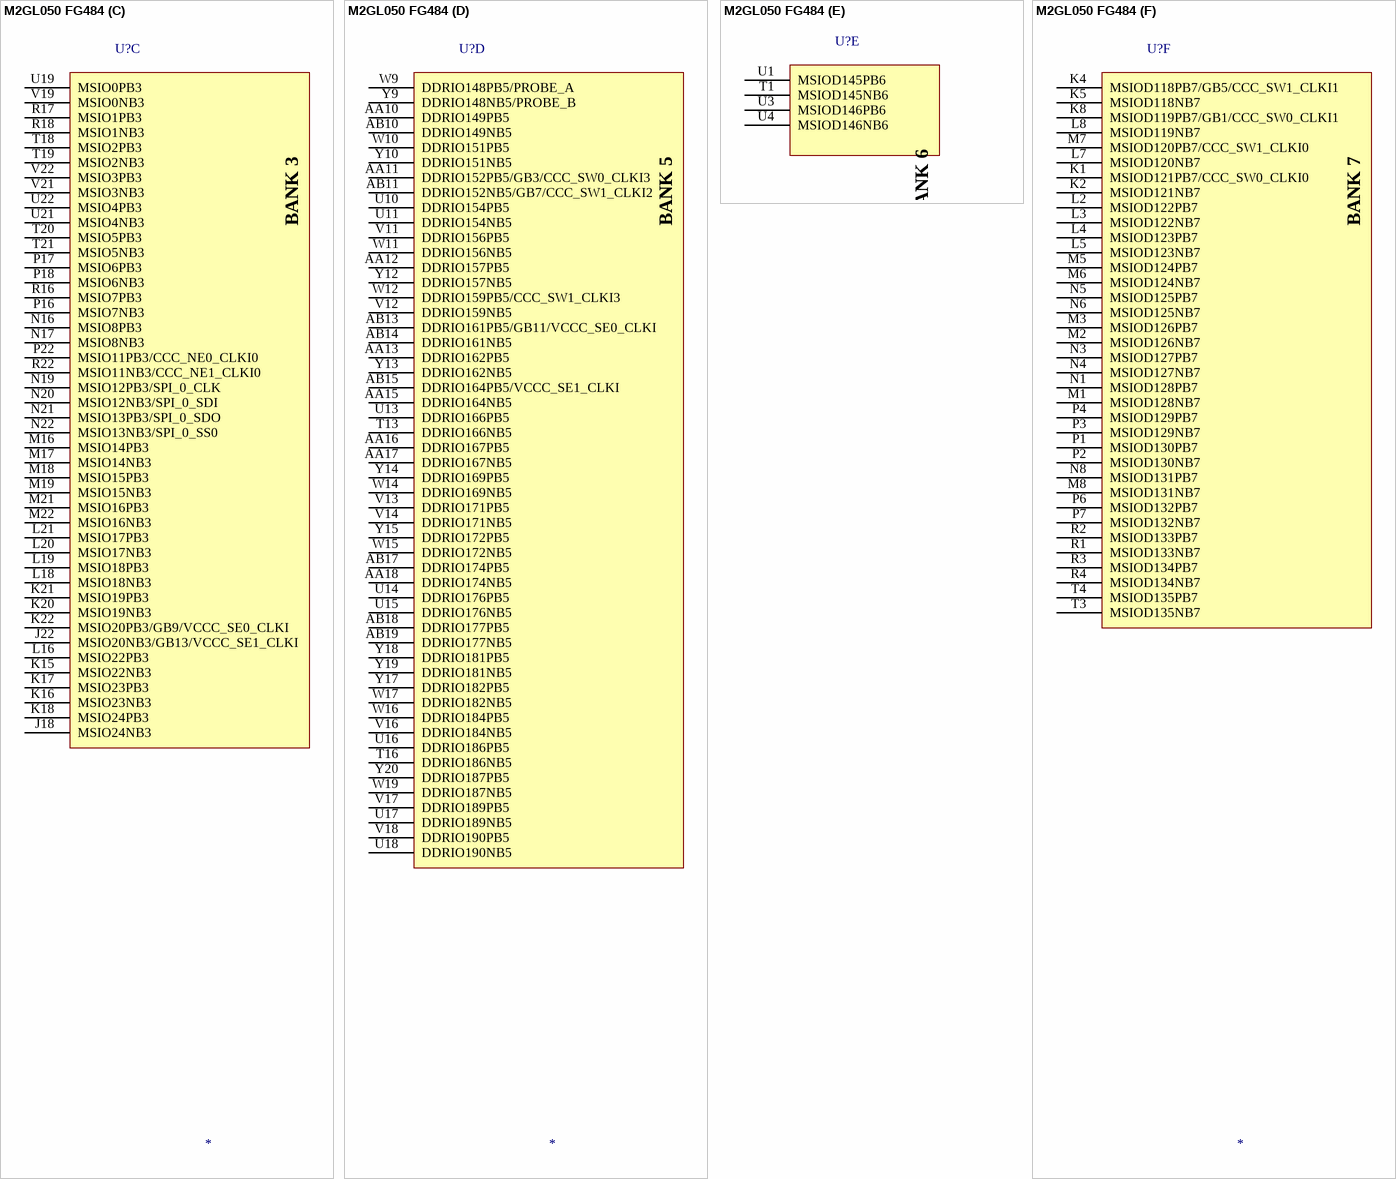
[diagram p9: symbol M2GL050 FG484]

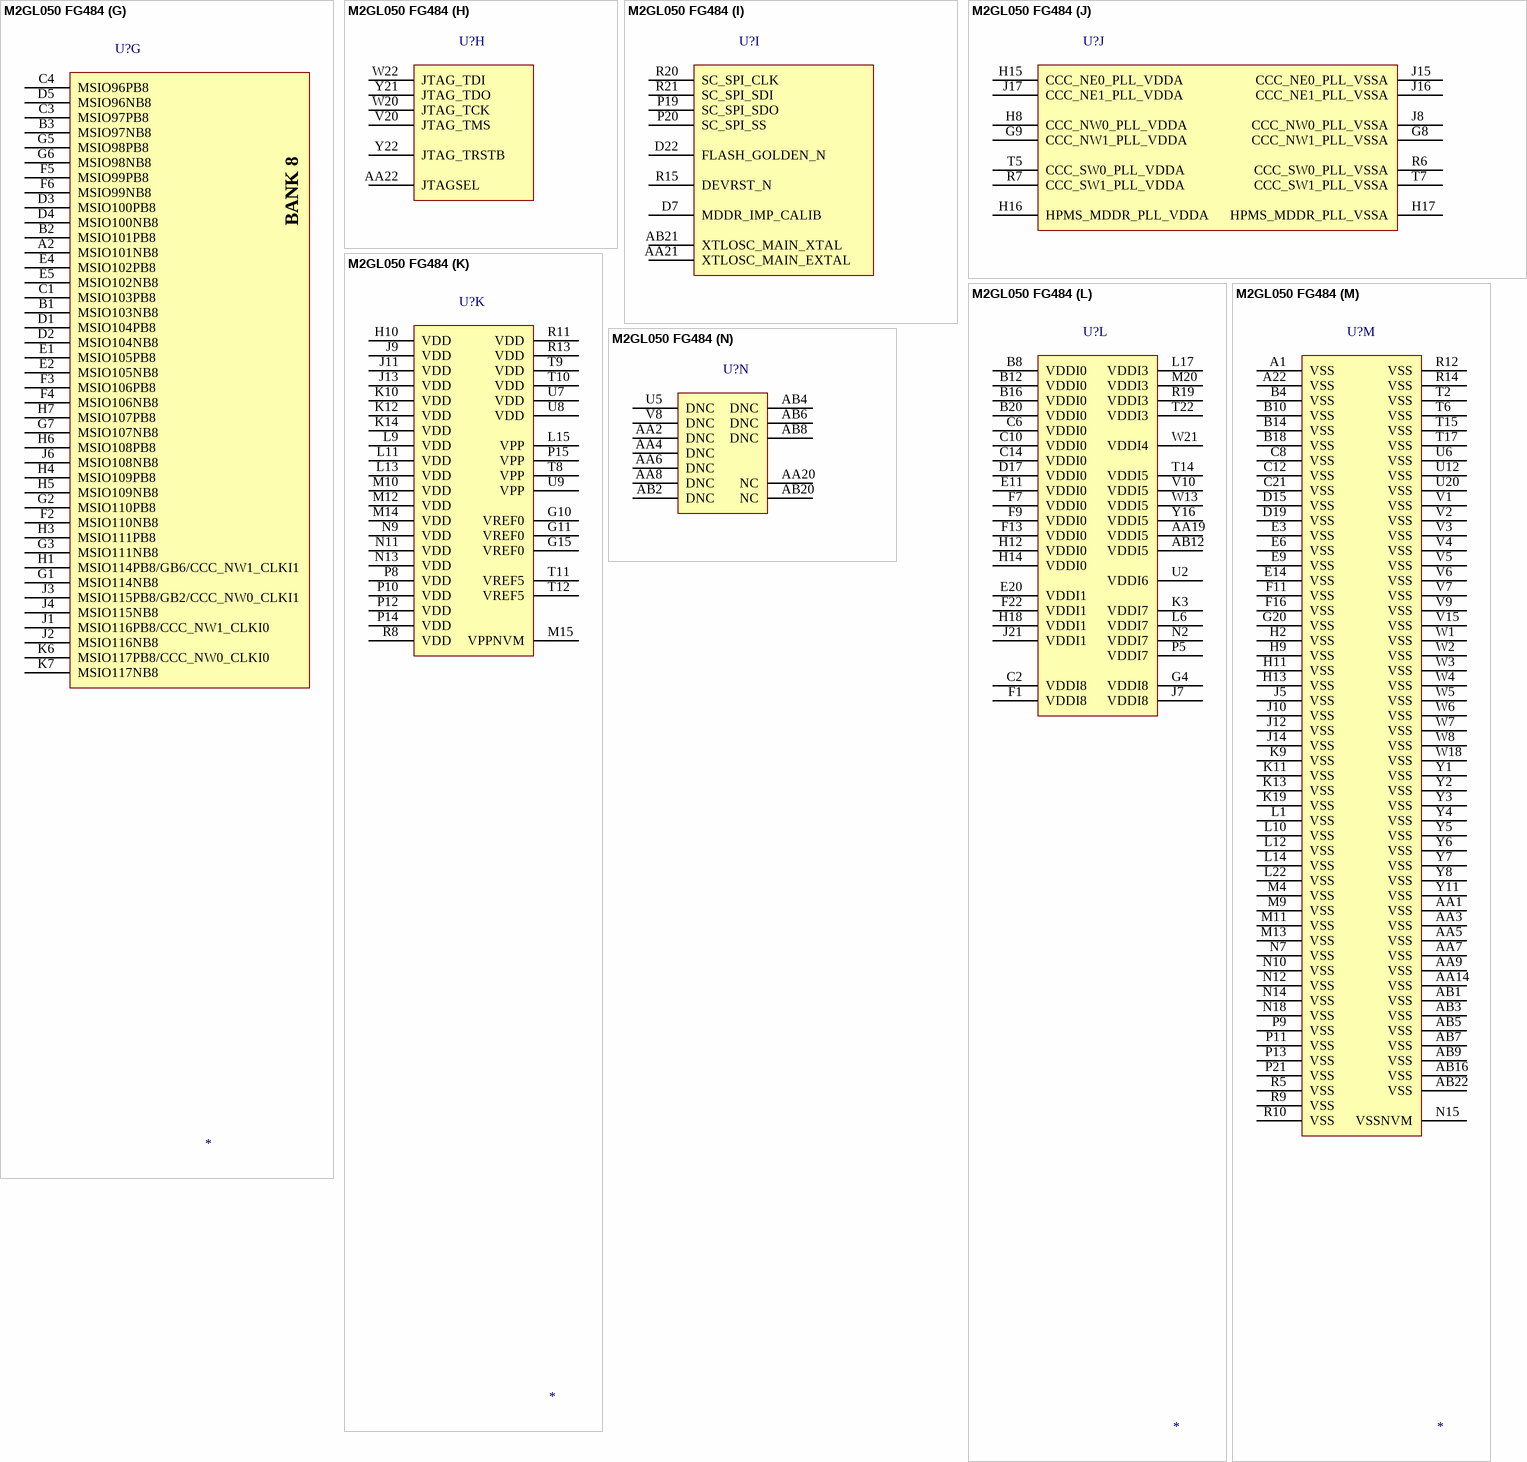
[diagram p10: symbol M2GL050 FG484]